# Altium integrated library Altera Mercury.IntLib: 11 symbols (part 1 of 4)
Pins are listed as number, name and electrical type; pins without a type are passive.

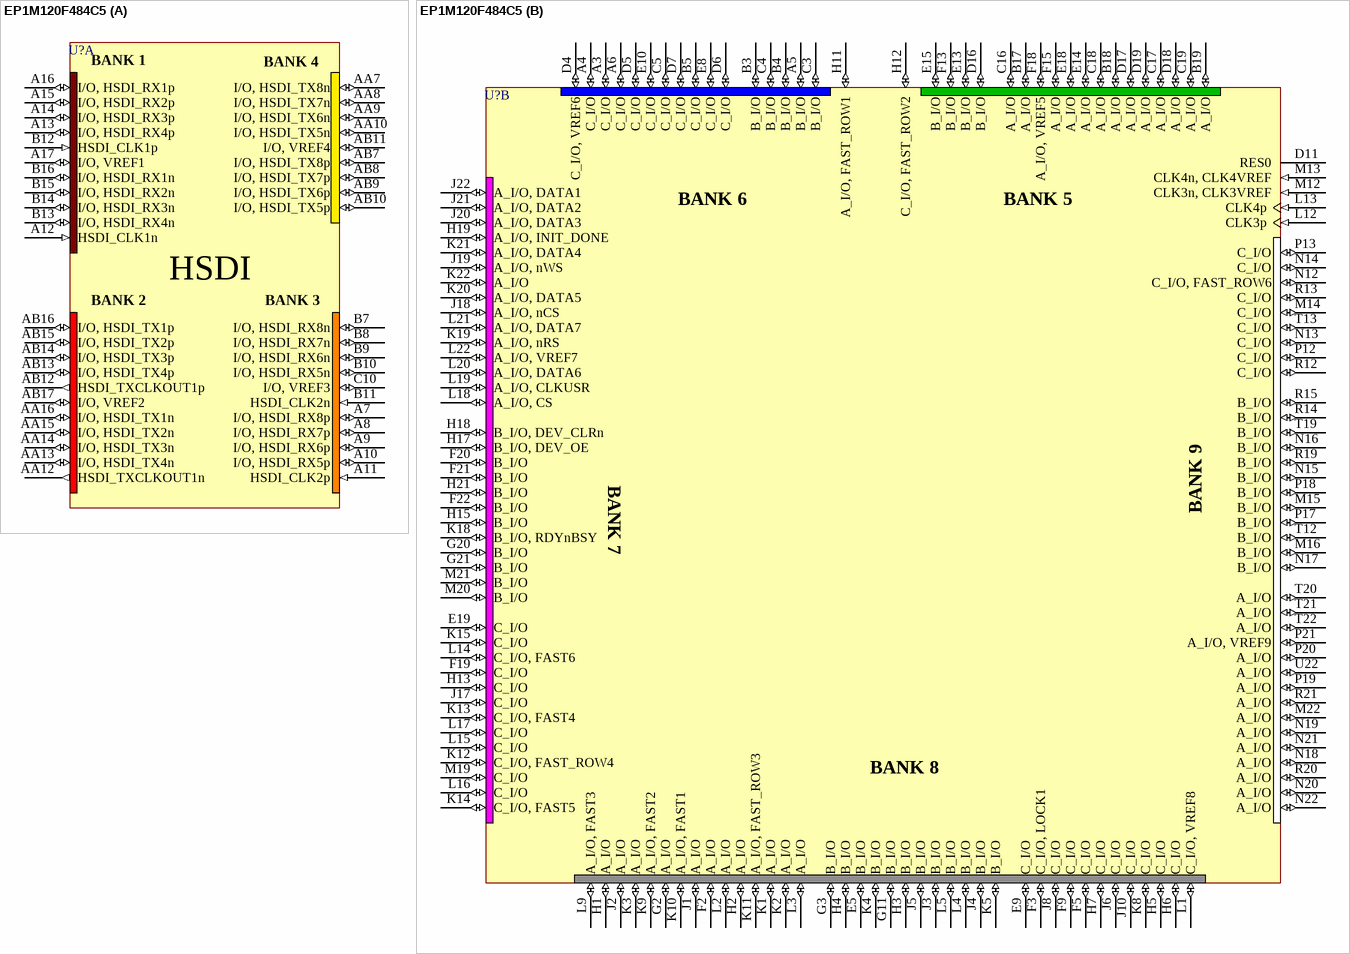
[diagram p0: symbol EP1M120F484C5]

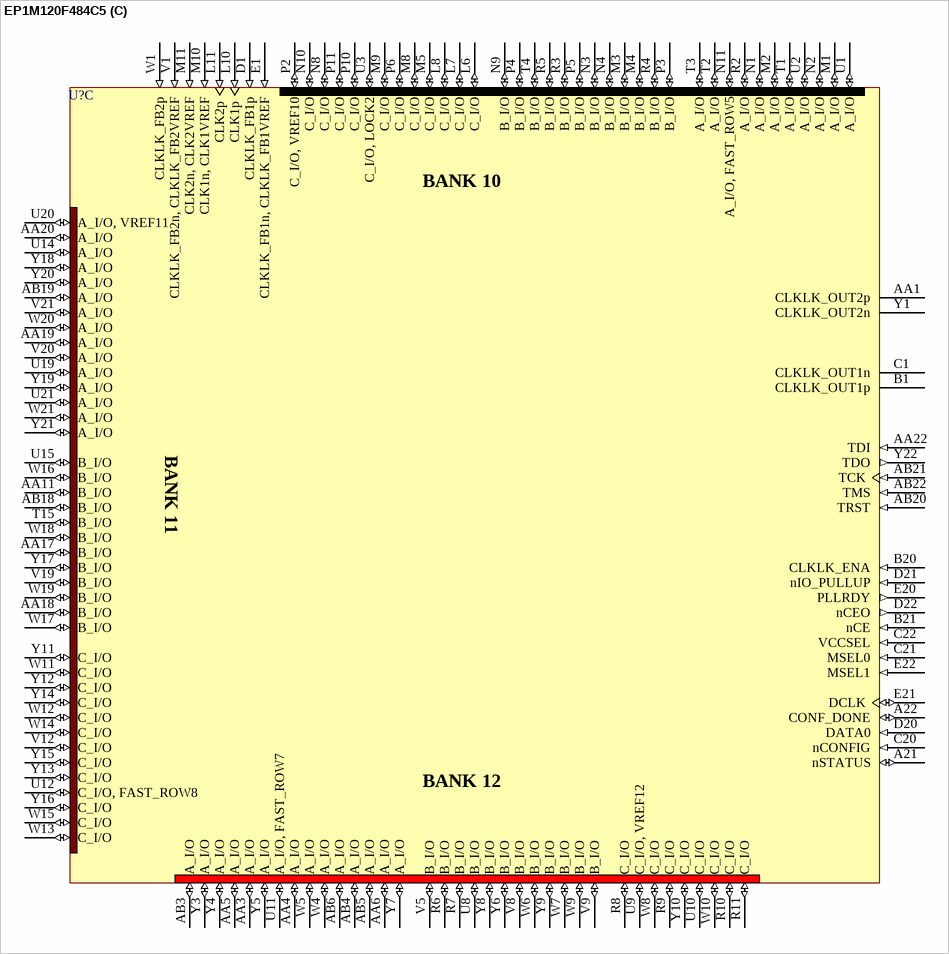
[diagram p1: symbol EP1M120F484C5]

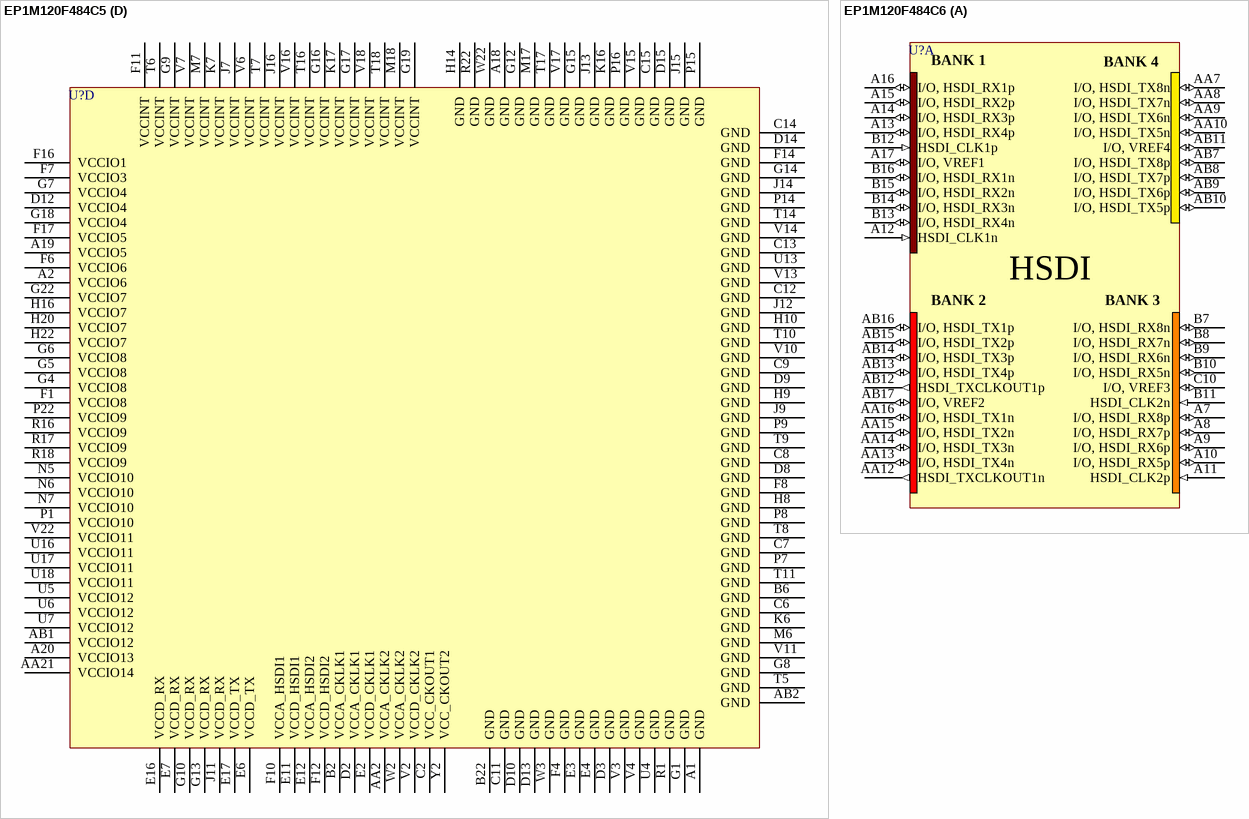
[diagram p2: symbols EP1M120F484C5 to EP1M120F484C6]

## EP1M120F484C5
designator U?
Mercury 1.8V FPGA, 303 I/O pins, 484-Pin FineLine BGA, Speed Grade 5, Commercial Grade; Published: 17-Jul-2002; LatestRevisionDate: 13-Apr-2006; LatestRevisionNote: IPC-7351 Footprint Added.; DatasheetVersion: ver2.2, Jan-2003; PackageVersion: ver14.1, Oct-2005; PackageReference: FBGA484; Publisher: Altium Limited; PackageDescription: 484-Ball FineLine Ball Grid Array (FBGA484) - Flip Chip; Code_JEDEC: MS-034-AAJ-1; Code_IPC: BGA100P22X22-484; ComponentLink1Description: Manufacturer Link; ComponentLink1URL: http://www.altera.com/products/devices/mercury/overview/mcy-overview.html; ComponentLink2Description: Datasheet; ComponentLink2URL: http://www.altera.com/literature/ds/dsmercury.pdf; ComponentLink3Description: Packaging Specification; ComponentLink3URL: http://www.altera.com/literature/ds/dspkg.pdf
footprint FBGA484 (BGA, 484-Leads, Body 23x23mm, Pitch 1mm)
3D model EP1M120-FBGA484T (484-Ball FineLine Ball Grid Array (FBGA484) - Flip Chip)
part A pins: A7 I/O, HSDI_RX8p (io), A8 I/O, HSDI_RX7p (io), A9 I/O, HSDI_RX6p (io), A10 I/O, HSDI_RX5p (io), A11 HSDI_CLK2p (in), A12 HSDI_CLK1n (in), A13 I/O, HSDI_RX4p (io), A14 I/O, HSDI_RX3p (io), A15 I/O, HSDI_RX2p (io), A16 I/O, HSDI_RX1p (io), A17 I/O, VREF1 (io), AA7 I/O, HSDI_TX8n (io), AA8 I/O, HSDI_TX7n (io), AA9 I/O, HSDI_TX6n (io), AA10 I/O, HSDI_TX5n (io), AA12 HSDI_TXCLKOUT1n (out), AA13 I/O, HSDI_TX4n (io), AA14 I/O, HSDI_TX3n (io), AA15 I/O, HSDI_TX2n (io), AA16 I/O, HSDI_TX1n (io), AB7 I/O, HSDI_TX8p (io), AB8 I/O, HSDI_TX7p (io), AB9 I/O, HSDI_TX6p (io), AB10 I/O, HSDI_TX5p (io), AB11 I/O, VREF4 (io), AB12 HSDI_TXCLKOUT1p (out), AB13 I/O, HSDI_TX4p (io), AB14 I/O, HSDI_TX3p (io), AB15 I/O, HSDI_TX2p (io), AB16 I/O, HSDI_TX1p (io), AB17 I/O, VREF2 (io), B7 I/O, HSDI_RX8n (io), B8 I/O, HSDI_RX7n (io), B9 I/O, HSDI_RX6n (io), B10 I/O, HSDI_RX5n (io), B11 HSDI_CLK2n (in), B12 HSDI_CLK1p (in), B13 I/O, HSDI_RX4n (io), B14 I/O, HSDI_RX3n (io), B15 I/O, HSDI_RX2n (io), B16 I/O, HSDI_RX1n (io), C10 I/O, VREF3 (io)
part B pins: A3 C_I/O (io), A4 C_I/O (io), A5 B_I/O (io), A6 C_I/O (io), B3 B_I/O (io), B4 B_I/O (io), B5 C_I/O (io), B17 A_I/O (io), B18 A_I/O (io), B19 A_I/O (io), C3 B_I/O (io), C4 B_I/O (io), C5 C_I/O (io), C16 A_I/O (io), C17 A_I/O (io), C18 A_I/O (io), C19 A_I/O (io), D4 C_I/O, VREF6 (io), D5 C_I/O (io), D6 C_I/O (io), D7 C_I/O (io), D11 RES0, D16 B_I/O (io), D17 A_I/O (io), D18 A_I/O (io), D19 A_I/O (io), E5 B_I/O (io), E8 C_I/O (io), E9 C_I/O (io), E10 C_I/O (io), E13 B_I/O (io), E14 A_I/O (io), E15 B_I/O (io), E18 A_I/O (io), E19 C_I/O (io), F2 A_I/O (io), F3 C_I/O, LOCK1 (io), F5 C_I/O (io), F9 C_I/O (io), F13 B_I/O (io), F15 A_I/O (io), F18 A_I/O, VREF5 (io), F19 C_I/O (io), F20 B_I/O (io), F21 B_I/O (io), F22 B_I/O (io), G2 A_I/O (io), G3 B_I/O (io), G11 B_I/O (io), G20 B_I/O (io), G21 B_I/O (io), H1 A_I/O (io), H2 A_I/O (io), H3 B_I/O (io), H4 B_I/O (io), H5 C_I/O (io), H6 C_I/O (io), H7 C_I/O (io), H11 A_I/O, FAST_ROW1 (io), H12 C_I/O, FAST_ROW2 (io), H13 C_I/O (io), H15 B_I/O (io), H17 B_I/O, DEV_OE (io), H18 B_I/O, DEV_CLRn (io), H19 A_I/O, INIT_DONE (io), H21 B_I/O (io), J1 A_I/O (io), J2 A_I/O (io), J3 B_I/O (io), J4 B_I/O (io), J5 B_I/O (io), J6 C_I/O (io), J8 C_I/O (io), J10 C_I/O (io), J17 C_I/O (io), J18 A_I/O, nCS (io), J19 A_I/O, nWS (io), J20 A_I/O, DATA3 (io), J21 A_I/O, DATA2 (io), J22 A_I/O, DATA1 (io), K1 A_I/O (io), K2 A_I/O (io), K3 A_I/O (io), K4 B_I/O (io), K5 B_I/O (io), K8 C_I/O (io), K9 A_I/O, FAST2 (io), K10 A_I/O, FAST1 (io), K11 A_I/O, FAST_ROW3 (io), K12 C_I/O, FAST_ROW4 (io), K13 C_I/O, FAST4 (io), K14 C_I/O, FAST5 (io), K15 C_I/O (io), K18 B_I/O, RDYnBSY (io), K19 A_I/O, nRS (io), K20 A_I/O, DATA5 (io), K21 A_I/O, DATA4 (io), K22 A_I/O (io), L1 C_I/O, VREF8 (io), L2 A_I/O (io), L3 A_I/O (io), L4 B_I/O (io), L5 B_I/O (io), L9 A_I/O, FAST3 (io), L12 CLK3p (in), L13 CLK4p (in), L14 C_I/O, FAST6 (io), L15 C_I/O (io), L16 C_I/O (io), L17 C_I/O (io), L18 A_I/O, CS (io), L19 A_I/O, CLKUSR (io), L20 A_I/O, DATA6 (io), L21 A_I/O, DATA7 (io), L22 A_I/O, VREF7 (io), M12 CLK3n, CLK3VREF (in), M13 CLK4n, CLK4VREF (in), M14 C_I/O (io), M15 B_I/O (io), M16 B_I/O (io), M19 C_I/O (io), M20 B_I/O (io), M21 B_I/O (io), M22 A_I/O (io), N12 C_I/O, FAST_ROW6 (io), N13 C_I/O (io), N14 C_I/O (io), N15 B_I/O (io), N16 B_I/O (io), N17 B_I/O (io), N18 A_I/O (io), N19 A_I/O (io), N20 A_I/O (io), N21 A_I/O (io), N22 A_I/O (io), P12 C_I/O (io), P13 C_I/O (io), P17 B_I/O (io), P18 B_I/O (io), P19 A_I/O (io), P20 A_I/O (io), P21 A_I/O, VREF9 (io), R12 C_I/O (io), R13 C_I/O (io), R14 B_I/O (io), R15 B_I/O (io), R19 B_I/O (io), R20 A_I/O (io), R21 A_I/O (io), T12 B_I/O (io), T13 C_I/O (io), T19 B_I/O (io), T20 A_I/O (io), T21 A_I/O (io), T22 A_I/O (io), U22 A_I/O (io)
part C pins: A21 nSTATUS (io), A22 CONF_DONE (io), AA1 CLKLK_OUT2p, AA3 A_I/O (io), AA4 A_I/O (io), AA5 A_I/O (io), AA6 A_I/O (io), AA11 B_I/O (io), AA17 B_I/O (io), AA18 B_I/O (io), AA19 A_I/O (io), AA20 A_I/O (io), AA22 TDI (in), AB3 A_I/O (io), AB4 A_I/O (io), AB5 A_I/O (io), AB6 A_I/O (io), AB18 B_I/O (io), AB19 A_I/O (io), AB20 TRST (in), AB21 TCK (in), AB22 TMS (in), B1 CLKLK_OUT1p, B20 CLKLK_ENA (in), B21 nCE (in), C1 CLKLK_OUT1n, C20 nCONFIG (in), C21 MSEL0 (in), C22 VCCSEL (in), D1 CLKLK_FB1p (in), D20 DATA0 (in), D21 nIO_PULLUP (in), D22 nCEO (out), E1 CLKLK_FB1n, CLKLK_FB1VREF (in), E20 PLLRDY (out), E21 DCLK (io), E22 MSEL1 (in), L6 C_I/O (io), L7 C_I/O (io), L8 C_I/O (io), L10 CLK1p (in), L11 CLK2p (in), M1 A_I/O (io), M2 A_I/O (io), M3 B_I/O (io), M4 B_I/O (io), M5 C_I/O (io), M8 C_I/O (io), M9 C_I/O (io), M10 CLK1n, CLK1VREF (in), M11 CLK2n, CLK2VREF (in), N1 A_I/O (io), N2 A_I/O (io), N3 B_I/O (io), N4 B_I/O (io), N8 C_I/O (io), N9 B_I/O (io), N10 C_I/O (io), N11 A_I/O, FAST_ROW5 (io), P2 C_I/O, VREF10 (io), P3 B_I/O (io), P4 B_I/O (io), P5 B_I/O (io), P6 C_I/O (io), P10 C_I/O (io), P11 C_I/O (io), R2 A_I/O (io), R3 B_I/O (io), R4 B_I/O (io), R5 B_I/O (io), R6 B_I/O (io), R7 B_I/O (io), R8 C_I/O (io), R9 C_I/O (io), R10 C_I/O (io), R11 C_I/O (io), T1 A_I/O (io), T2 A_I/O (io), T3 A_I/O (io), T4 B_I/O (io), T15 B_I/O (io), U1 A_I/O (io), U2 A_I/O (io), U3 C_I/O, LOCK2 (io), U8 B_I/O (io), U9 C_I/O, VREF12 (io), U10 C_I/O (io), U11 A_I/O, FAST_ROW7 (io), U12 C_I/O, FAST_ROW8 (io), U14 A_I/O (io), U15 B_I/O (io), U19 A_I/O (io), U20 A_I/O, VREF11 (io), U21 A_I/O (io), V1 CLKLK_FB2n, CLKLK_FB2VREF (in), V5 B_I/O (io), V8 B_I/O (io), V9 B_I/O (io), V12 C_I/O (io), V19 B_I/O (io), V20 A_I/O (io), V21 A_I/O (io), W1 CLKLK_FB2p (in), W4 A_I/O (io), W5 A_I/O (io), W6 B_I/O (io), W7 B_I/O (io), W8 C_I/O (io), W9 B_I/O (io), W10 C_I/O (io), W11 C_I/O (io), W12 C_I/O (io), W13 C_I/O (io), W14 C_I/O (io), W15 C_I/O (io), W16 B_I/O (io), W17 B_I/O (io), W18 B_I/O (io), W19 B_I/O (io), W20 A_I/O (io), W21 A_I/O (io), Y1 CLKLK_OUT2n, Y3 A_I/O (io), Y4 A_I/O (io), Y5 A_I/O (io), Y6 B_I/O (io), Y7 A_I/O (io), Y8 B_I/O (io), Y9 B_I/O (io), Y10 C_I/O (io), Y11 C_I/O (io), Y12 C_I/O (io), Y13 C_I/O (io), Y14 C_I/O (io), Y15 C_I/O (io), Y16 C_I/O (io), Y17 B_I/O (io), Y18 A_I/O (io), Y19 A_I/O (io), Y20 A_I/O (io), Y21 A_I/O (io), Y22 TDO (out)
part D pins: A1 GND (power), A2 VCCIO6 (power), A18 GND (power), A19 VCCIO5 (power), A20 VCCIO13 (power), AA2 VCCA_CKLK2 (power), AA21 VCCIO14 (power), AB1 VCCIO12 (power), AB2 GND (power), B2 VCCA_CKLK1 (power), B6 GND (power), B22 GND (power), C2 VCC_CKOUT1 (power), C6 GND (power), C7 GND (power), C8 GND (power), C9 GND (power), C11 GND (power), C12 GND (power), C13 GND (power), C14 GND (power), C15 GND (power), D2 VCCA_CKLK1 (power), D3 GND (power), D8 GND (power), D9 GND (power), D10 GND (power), D12 VCCIO4 (power), D13 GND (power), D14 GND (power), D15 GND (power), E2 VCCD_CKLK1 (power), E3 GND (power), E4 GND (power), E6 VCCD_TX (power), E7 VCCD_RX (power), E11 VCCD_HSDI1 (power), E12 VCCA_HSDI2 (power), E16 VCCD_RX (power), E17 VCCD_TX (power), F1 VCCIO8 (power), F4 GND (power), F6 VCCIO6 (power), F7 VCCIO3 (power), F8 GND (power), F10 VCCA_HSDI1 (power), F11 VCCINT (power), F12 VCCD_HSDI2 (power), F14 GND (power), F16 VCCIO1 (power), F17 VCCIO5 (power), G1 GND (power), G4 VCCIO8 (power), G5 VCCIO8 (power), G6 VCCIO8 (power), G7 VCCIO4 (power), G8 GND (power), G9 VCCINT (power), G10 VCCD_RX (power), G12 GND (power), G13 VCCD_RX (power), G14 GND (power), G15 GND (power), G16 VCCINT (power), G17 VCCINT (power), G18 VCCIO4 (power), G19 VCCINT (power), G22 VCCIO7 (power), H8 GND (power), H9 GND (power), H10 GND (power), H14 GND (power), H16 VCCIO7 (power), H20 VCCIO7 (power), H22 VCCIO7 (power), J7 VCCINT (power), J9 GND (power), J11 VCCD_RX (power), J12 GND (power), J13 GND (power), J14 GND (power), J15 GND (power), J16 VCCINT (power), K6 GND (power), K7 VCCINT (power), K16 GND (power), K17 VCCINT (power), M6 GND (power), M7 VCCINT (power), M17 GND (power), M18 VCCINT (power), N5 VCCIO10 (power), N6 VCCIO10 (power), N7 VCCIO10 (power), P1 VCCIO10 (power), P7 GND (power), P8 GND (power), P9 GND (power), P14 GND (power), P15 GND (power), P16 GND (power), P22 VCCIO9 (power), R1 GND (power), R16 VCCIO9 (power), R17 VCCIO9 (power), R18 VCCIO9 (power), R22 GND (power), T5 GND (power), T6 VCCINT (power), T7 VCCINT (power), T8 GND (power), T9 GND (power), T10 GND (power), T11 GND (power), T14 GND (power), T16 VCCINT (power), T17 GND (power), T18 VCCINT (power), U4 GND (power), U5 VCCIO12 (power), U6 VCCIO12 (power), U7 VCCIO12 (power), U13 GND (power), U16 VCCIO11 (power), U17 VCCIO11 (power), U18 VCCIO11 (power), V2 VCCD_CKLK2 (power), V3 GND (power), V4 GND (power), V6 VCCINT (power), V7 VCCINT (power), V10 GND (power), V11 GND (power), V13 GND (power), V14 GND (power), V15 GND (power), V16 VCCINT (power), V17 GND (power), V18 VCCINT (power), V22 VCCIO11 (power), W2 VCCA_CKLK2 (power), W3 GND (power), W22 GND (power), Y2 VCC_CKOUT2 (power)
part A text: BANK 1; BANK 4; HSDI; BANK 2; BANK 3
part B text: BANK 6; BANK 5; BANK 7; BANK 9; BANK 8
part C text: BANK 10; BANK 11; BANK 12

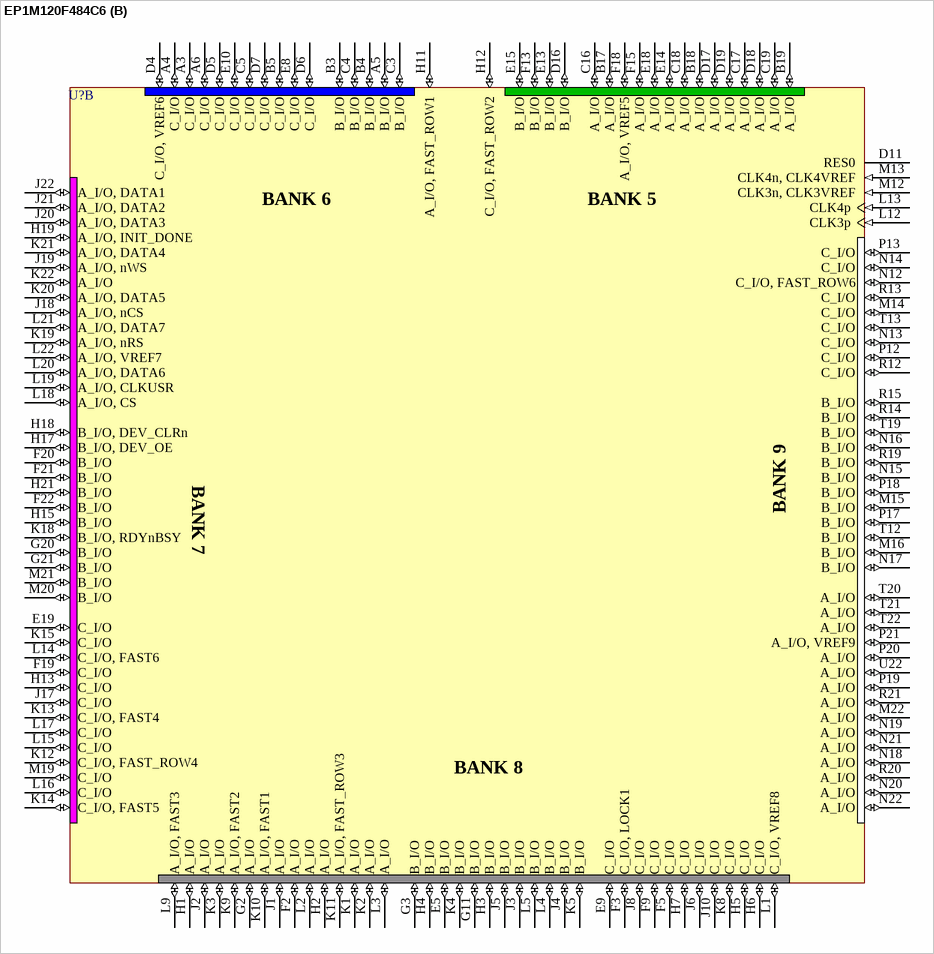
[diagram p3: symbol EP1M120F484C6]

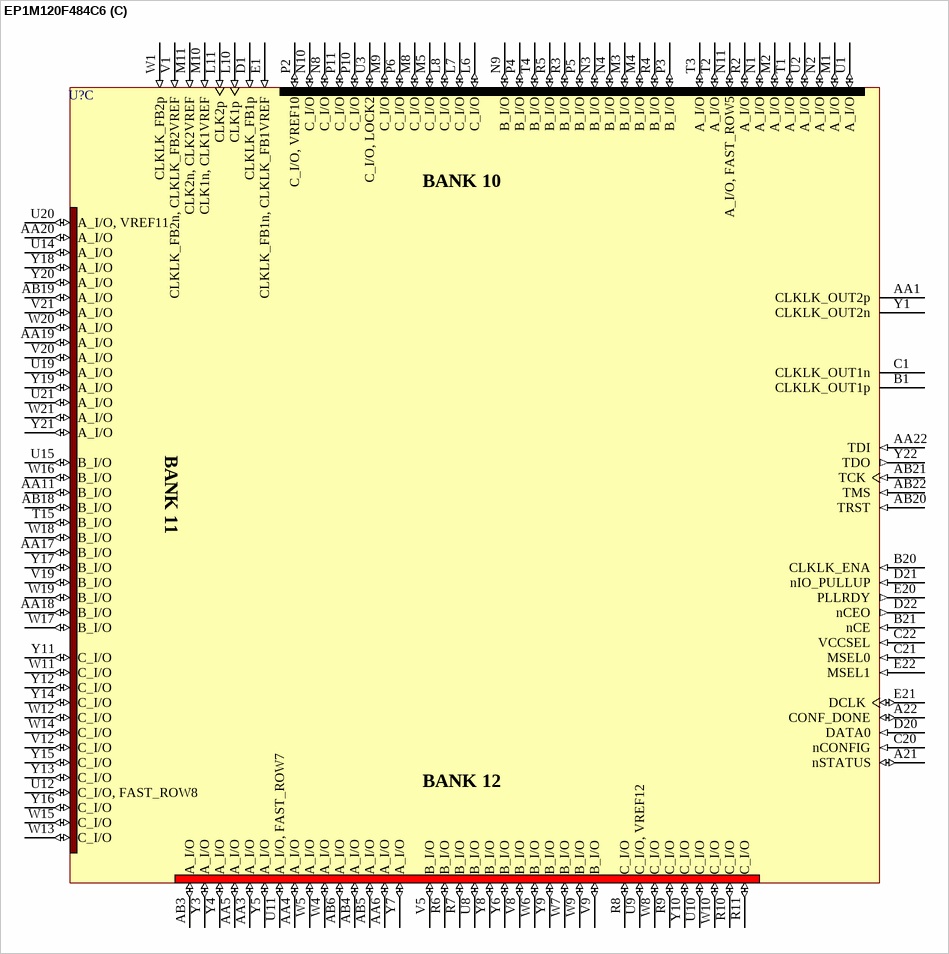
[diagram p4: symbol EP1M120F484C6]

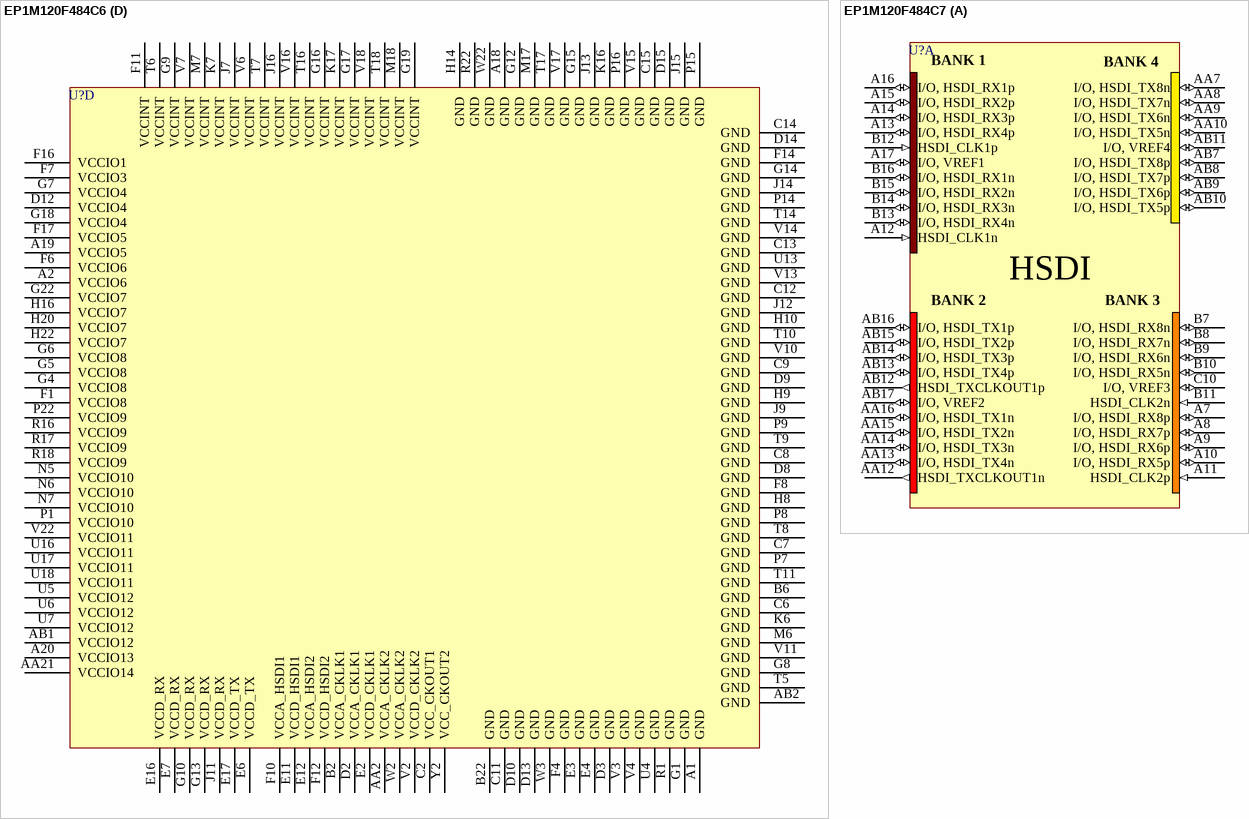
[diagram p5: symbols EP1M120F484C6 to EP1M120F484C7]

## EP1M120F484C6
designator U?
Mercury 1.8V FPGA, 303 I/O pins, 484-Pin FineLine BGA, Speed Grade 6, Commercial Grade; Published: 17-Jul-2002; LatestRevisionDate: 13-Apr-2006; LatestRevisionNote: IPC-7351 Footprint Added.; DatasheetVersion: ver2.2, Jan-2003; PackageVersion: ver14.1, Oct-2005; PackageReference: FBGA484; Publisher: Altium Limited; PackageDescription: 484-Ball FineLine Ball Grid Array (FBGA484) - Flip Chip; Code_JEDEC: MS-034-AAJ-1; Code_IPC: BGA100P22X22-484; ComponentLink1Description: Manufacturer Link; ComponentLink1URL: http://www.altera.com/products/devices/mercury/overview/mcy-overview.html; ComponentLink2Description: Datasheet; ComponentLink2URL: http://www.altera.com/literature/ds/dsmercury.pdf; ComponentLink3Description: Packaging Specification; ComponentLink3URL: http://www.altera.com/literature/ds/dspkg.pdf
footprint FBGA484 (BGA, 484-Leads, Body 23x23mm, Pitch 1mm)
3D model EP1M120-FBGA484T (484-Ball FineLine Ball Grid Array (FBGA484) - Flip Chip)
part A pins: A7 I/O, HSDI_RX8p (io), A8 I/O, HSDI_RX7p (io), A9 I/O, HSDI_RX6p (io), A10 I/O, HSDI_RX5p (io), A11 HSDI_CLK2p (in), A12 HSDI_CLK1n (in), A13 I/O, HSDI_RX4p (io), A14 I/O, HSDI_RX3p (io), A15 I/O, HSDI_RX2p (io), A16 I/O, HSDI_RX1p (io), A17 I/O, VREF1 (io), AA7 I/O, HSDI_TX8n (io), AA8 I/O, HSDI_TX7n (io), AA9 I/O, HSDI_TX6n (io), AA10 I/O, HSDI_TX5n (io), AA12 HSDI_TXCLKOUT1n (out), AA13 I/O, HSDI_TX4n (io), AA14 I/O, HSDI_TX3n (io), AA15 I/O, HSDI_TX2n (io), AA16 I/O, HSDI_TX1n (io), AB7 I/O, HSDI_TX8p (io), AB8 I/O, HSDI_TX7p (io), AB9 I/O, HSDI_TX6p (io), AB10 I/O, HSDI_TX5p (io), AB11 I/O, VREF4 (io), AB12 HSDI_TXCLKOUT1p (out), AB13 I/O, HSDI_TX4p (io), AB14 I/O, HSDI_TX3p (io), AB15 I/O, HSDI_TX2p (io), AB16 I/O, HSDI_TX1p (io), AB17 I/O, VREF2 (io), B7 I/O, HSDI_RX8n (io), B8 I/O, HSDI_RX7n (io), B9 I/O, HSDI_RX6n (io), B10 I/O, HSDI_RX5n (io), B11 HSDI_CLK2n (in), B12 HSDI_CLK1p (in), B13 I/O, HSDI_RX4n (io), B14 I/O, HSDI_RX3n (io), B15 I/O, HSDI_RX2n (io), B16 I/O, HSDI_RX1n (io), C10 I/O, VREF3 (io)
part B pins: A3 C_I/O (io), A4 C_I/O (io), A5 B_I/O (io), A6 C_I/O (io), B3 B_I/O (io), B4 B_I/O (io), B5 C_I/O (io), B17 A_I/O (io), B18 A_I/O (io), B19 A_I/O (io), C3 B_I/O (io), C4 B_I/O (io), C5 C_I/O (io), C16 A_I/O (io), C17 A_I/O (io), C18 A_I/O (io), C19 A_I/O (io), D4 C_I/O, VREF6 (io), D5 C_I/O (io), D6 C_I/O (io), D7 C_I/O (io), D11 RES0, D16 B_I/O (io), D17 A_I/O (io), D18 A_I/O (io), D19 A_I/O (io), E5 B_I/O (io), E8 C_I/O (io), E9 C_I/O (io), E10 C_I/O (io), E13 B_I/O (io), E14 A_I/O (io), E15 B_I/O (io), E18 A_I/O (io), E19 C_I/O (io), F2 A_I/O (io), F3 C_I/O, LOCK1 (io), F5 C_I/O (io), F9 C_I/O (io), F13 B_I/O (io), F15 A_I/O (io), F18 A_I/O, VREF5 (io), F19 C_I/O (io), F20 B_I/O (io), F21 B_I/O (io), F22 B_I/O (io), G2 A_I/O (io), G3 B_I/O (io), G11 B_I/O (io), G20 B_I/O (io), G21 B_I/O (io), H1 A_I/O (io), H2 A_I/O (io), H3 B_I/O (io), H4 B_I/O (io), H5 C_I/O (io), H6 C_I/O (io), H7 C_I/O (io), H11 A_I/O, FAST_ROW1 (io), H12 C_I/O, FAST_ROW2 (io), H13 C_I/O (io), H15 B_I/O (io), H17 B_I/O, DEV_OE (io), H18 B_I/O, DEV_CLRn (io), H19 A_I/O, INIT_DONE (io), H21 B_I/O (io), J1 A_I/O (io), J2 A_I/O (io), J3 B_I/O (io), J4 B_I/O (io), J5 B_I/O (io), J6 C_I/O (io), J8 C_I/O (io), J10 C_I/O (io), J17 C_I/O (io), J18 A_I/O, nCS (io), J19 A_I/O, nWS (io), J20 A_I/O, DATA3 (io), J21 A_I/O, DATA2 (io), J22 A_I/O, DATA1 (io), K1 A_I/O (io), K2 A_I/O (io), K3 A_I/O (io), K4 B_I/O (io), K5 B_I/O (io), K8 C_I/O (io), K9 A_I/O, FAST2 (io), K10 A_I/O, FAST1 (io), K11 A_I/O, FAST_ROW3 (io), K12 C_I/O, FAST_ROW4 (io), K13 C_I/O, FAST4 (io), K14 C_I/O, FAST5 (io), K15 C_I/O (io), K18 B_I/O, RDYnBSY (io), K19 A_I/O, nRS (io), K20 A_I/O, DATA5 (io), K21 A_I/O, DATA4 (io), K22 A_I/O (io), L1 C_I/O, VREF8 (io), L2 A_I/O (io), L3 A_I/O (io), L4 B_I/O (io), L5 B_I/O (io), L9 A_I/O, FAST3 (io), L12 CLK3p (in), L13 CLK4p (in), L14 C_I/O, FAST6 (io), L15 C_I/O (io), L16 C_I/O (io), L17 C_I/O (io), L18 A_I/O, CS (io), L19 A_I/O, CLKUSR (io), L20 A_I/O, DATA6 (io), L21 A_I/O, DATA7 (io), L22 A_I/O, VREF7 (io), M12 CLK3n, CLK3VREF (in), M13 CLK4n, CLK4VREF (in), M14 C_I/O (io), M15 B_I/O (io), M16 B_I/O (io), M19 C_I/O (io), M20 B_I/O (io), M21 B_I/O (io), M22 A_I/O (io), N12 C_I/O, FAST_ROW6 (io), N13 C_I/O (io), N14 C_I/O (io), N15 B_I/O (io), N16 B_I/O (io), N17 B_I/O (io), N18 A_I/O (io), N19 A_I/O (io), N20 A_I/O (io), N21 A_I/O (io), N22 A_I/O (io), P12 C_I/O (io), P13 C_I/O (io), P17 B_I/O (io), P18 B_I/O (io), P19 A_I/O (io), P20 A_I/O (io), P21 A_I/O, VREF9 (io), R12 C_I/O (io), R13 C_I/O (io), R14 B_I/O (io), R15 B_I/O (io), R19 B_I/O (io), R20 A_I/O (io), R21 A_I/O (io), T12 B_I/O (io), T13 C_I/O (io), T19 B_I/O (io), T20 A_I/O (io), T21 A_I/O (io), T22 A_I/O (io), U22 A_I/O (io)
part C pins: A21 nSTATUS (io), A22 CONF_DONE (io), AA1 CLKLK_OUT2p, AA3 A_I/O (io), AA4 A_I/O (io), AA5 A_I/O (io), AA6 A_I/O (io), AA11 B_I/O (io), AA17 B_I/O (io), AA18 B_I/O (io), AA19 A_I/O (io), AA20 A_I/O (io), AA22 TDI (in), AB3 A_I/O (io), AB4 A_I/O (io), AB5 A_I/O (io), AB6 A_I/O (io), AB18 B_I/O (io), AB19 A_I/O (io), AB20 TRST (in), AB21 TCK (in), AB22 TMS (in), B1 CLKLK_OUT1p, B20 CLKLK_ENA (in), B21 nCE (in), C1 CLKLK_OUT1n, C20 nCONFIG (in), C21 MSEL0 (in), C22 VCCSEL (in), D1 CLKLK_FB1p (in), D20 DATA0 (in), D21 nIO_PULLUP (in), D22 nCEO (out), E1 CLKLK_FB1n, CLKLK_FB1VREF (in), E20 PLLRDY (out), E21 DCLK (io), E22 MSEL1 (in), L6 C_I/O (io), L7 C_I/O (io), L8 C_I/O (io), L10 CLK1p (in), L11 CLK2p (in), M1 A_I/O (io), M2 A_I/O (io), M3 B_I/O (io), M4 B_I/O (io), M5 C_I/O (io), M8 C_I/O (io), M9 C_I/O (io), M10 CLK1n, CLK1VREF (in), M11 CLK2n, CLK2VREF (in), N1 A_I/O (io), N2 A_I/O (io), N3 B_I/O (io), N4 B_I/O (io), N8 C_I/O (io), N9 B_I/O (io), N10 C_I/O (io), N11 A_I/O, FAST_ROW5 (io), P2 C_I/O, VREF10 (io), P3 B_I/O (io), P4 B_I/O (io), P5 B_I/O (io), P6 C_I/O (io), P10 C_I/O (io), P11 C_I/O (io), R2 A_I/O (io), R3 B_I/O (io), R4 B_I/O (io), R5 B_I/O (io), R6 B_I/O (io), R7 B_I/O (io), R8 C_I/O (io), R9 C_I/O (io), R10 C_I/O (io), R11 C_I/O (io), T1 A_I/O (io), T2 A_I/O (io), T3 A_I/O (io), T4 B_I/O (io), T15 B_I/O (io), U1 A_I/O (io), U2 A_I/O (io), U3 C_I/O, LOCK2 (io), U8 B_I/O (io), U9 C_I/O, VREF12 (io), U10 C_I/O (io), U11 A_I/O, FAST_ROW7 (io), U12 C_I/O, FAST_ROW8 (io), U14 A_I/O (io), U15 B_I/O (io), U19 A_I/O (io), U20 A_I/O, VREF11 (io), U21 A_I/O (io), V1 CLKLK_FB2n, CLKLK_FB2VREF (in), V5 B_I/O (io), V8 B_I/O (io), V9 B_I/O (io), V12 C_I/O (io), V19 B_I/O (io), V20 A_I/O (io), V21 A_I/O (io), W1 CLKLK_FB2p (in), W4 A_I/O (io), W5 A_I/O (io), W6 B_I/O (io), W7 B_I/O (io), W8 C_I/O (io), W9 B_I/O (io), W10 C_I/O (io), W11 C_I/O (io), W12 C_I/O (io), W13 C_I/O (io), W14 C_I/O (io), W15 C_I/O (io), W16 B_I/O (io), W17 B_I/O (io), W18 B_I/O (io), W19 B_I/O (io), W20 A_I/O (io), W21 A_I/O (io), Y1 CLKLK_OUT2n, Y3 A_I/O (io), Y4 A_I/O (io), Y5 A_I/O (io), Y6 B_I/O (io), Y7 A_I/O (io), Y8 B_I/O (io), Y9 B_I/O (io), Y10 C_I/O (io), Y11 C_I/O (io), Y12 C_I/O (io), Y13 C_I/O (io), Y14 C_I/O (io), Y15 C_I/O (io), Y16 C_I/O (io), Y17 B_I/O (io), Y18 A_I/O (io), Y19 A_I/O (io), Y20 A_I/O (io), Y21 A_I/O (io), Y22 TDO (out)
part D pins: A1 GND (power), A2 VCCIO6 (power), A18 GND (power), A19 VCCIO5 (power), A20 VCCIO13 (power), AA2 VCCA_CKLK2 (power), AA21 VCCIO14 (power), AB1 VCCIO12 (power), AB2 GND (power), B2 VCCA_CKLK1 (power), B6 GND (power), B22 GND (power), C2 VCC_CKOUT1 (power), C6 GND (power), C7 GND (power), C8 GND (power), C9 GND (power), C11 GND (power), C12 GND (power), C13 GND (power), C14 GND (power), C15 GND (power), D2 VCCA_CKLK1 (power), D3 GND (power), D8 GND (power), D9 GND (power), D10 GND (power), D12 VCCIO4 (power), D13 GND (power), D14 GND (power), D15 GND (power), E2 VCCD_CKLK1 (power), E3 GND (power), E4 GND (power), E6 VCCD_TX (power), E7 VCCD_RX (power), E11 VCCD_HSDI1 (power), E12 VCCA_HSDI2 (power), E16 VCCD_RX (power), E17 VCCD_TX (power), F1 VCCIO8 (power), F4 GND (power), F6 VCCIO6 (power), F7 VCCIO3 (power), F8 GND (power), F10 VCCA_HSDI1 (power), F11 VCCINT (power), F12 VCCD_HSDI2 (power), F14 GND (power), F16 VCCIO1 (power), F17 VCCIO5 (power), G1 GND (power), G4 VCCIO8 (power), G5 VCCIO8 (power), G6 VCCIO8 (power), G7 VCCIO4 (power), G8 GND (power), G9 VCCINT (power), G10 VCCD_RX (power), G12 GND (power), G13 VCCD_RX (power), G14 GND (power), G15 GND (power), G16 VCCINT (power), G17 VCCINT (power), G18 VCCIO4 (power), G19 VCCINT (power), G22 VCCIO7 (power), H8 GND (power), H9 GND (power), H10 GND (power), H14 GND (power), H16 VCCIO7 (power), H20 VCCIO7 (power), H22 VCCIO7 (power), J7 VCCINT (power), J9 GND (power), J11 VCCD_RX (power), J12 GND (power), J13 GND (power), J14 GND (power), J15 GND (power), J16 VCCINT (power), K6 GND (power), K7 VCCINT (power), K16 GND (power), K17 VCCINT (power), M6 GND (power), M7 VCCINT (power), M17 GND (power), M18 VCCINT (power), N5 VCCIO10 (power), N6 VCCIO10 (power), N7 VCCIO10 (power), P1 VCCIO10 (power), P7 GND (power), P8 GND (power), P9 GND (power), P14 GND (power), P15 GND (power), P16 GND (power), P22 VCCIO9 (power), R1 GND (power), R16 VCCIO9 (power), R17 VCCIO9 (power), R18 VCCIO9 (power), R22 GND (power), T5 GND (power), T6 VCCINT (power), T7 VCCINT (power), T8 GND (power), T9 GND (power), T10 GND (power), T11 GND (power), T14 GND (power), T16 VCCINT (power), T17 GND (power), T18 VCCINT (power), U4 GND (power), U5 VCCIO12 (power), U6 VCCIO12 (power), U7 VCCIO12 (power), U13 GND (power), U16 VCCIO11 (power), U17 VCCIO11 (power), U18 VCCIO11 (power), V2 VCCD_CKLK2 (power), V3 GND (power), V4 GND (power), V6 VCCINT (power), V7 VCCINT (power), V10 GND (power), V11 GND (power), V13 GND (power), V14 GND (power), V15 GND (power), V16 VCCINT (power), V17 GND (power), V18 VCCINT (power), V22 VCCIO11 (power), W2 VCCA_CKLK2 (power), W3 GND (power), W22 GND (power), Y2 VCC_CKOUT2 (power)
part A text: BANK 1; BANK 4; HSDI; BANK 2; BANK 3
part B text: BANK 6; BANK 5; BANK 7; BANK 9; BANK 8
part C text: BANK 10; BANK 11; BANK 12

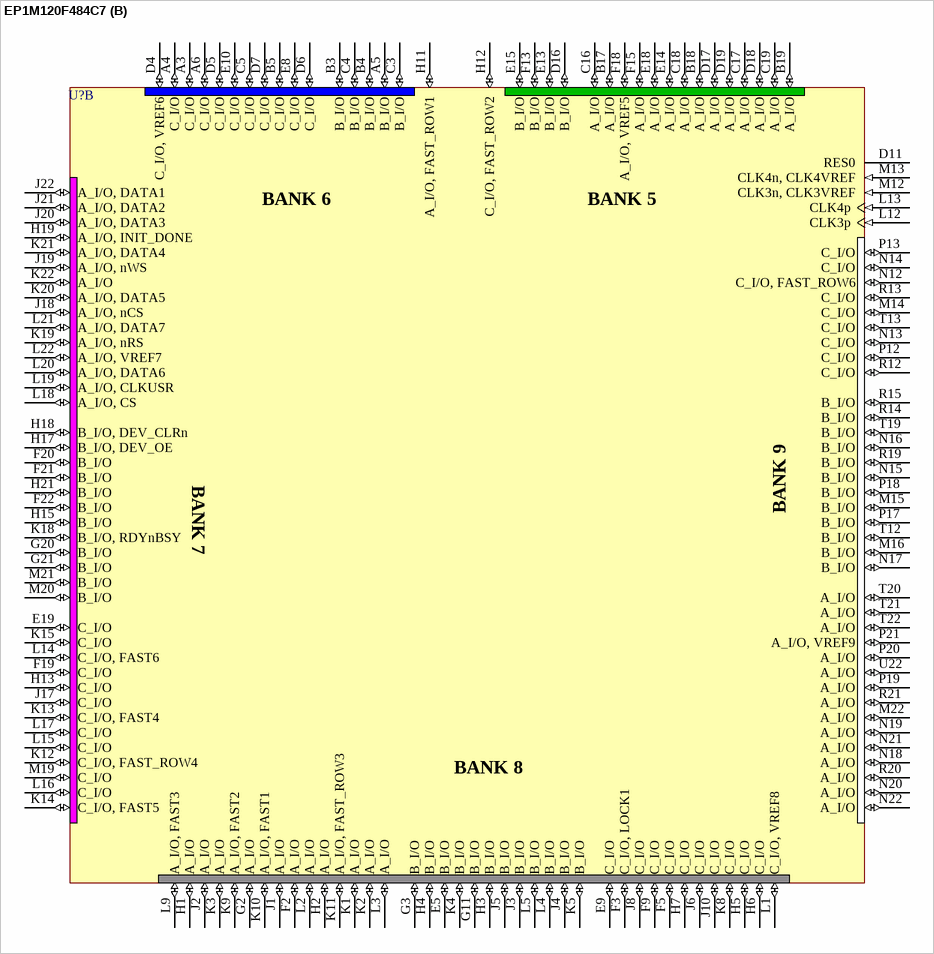
[diagram p6: symbol EP1M120F484C7]

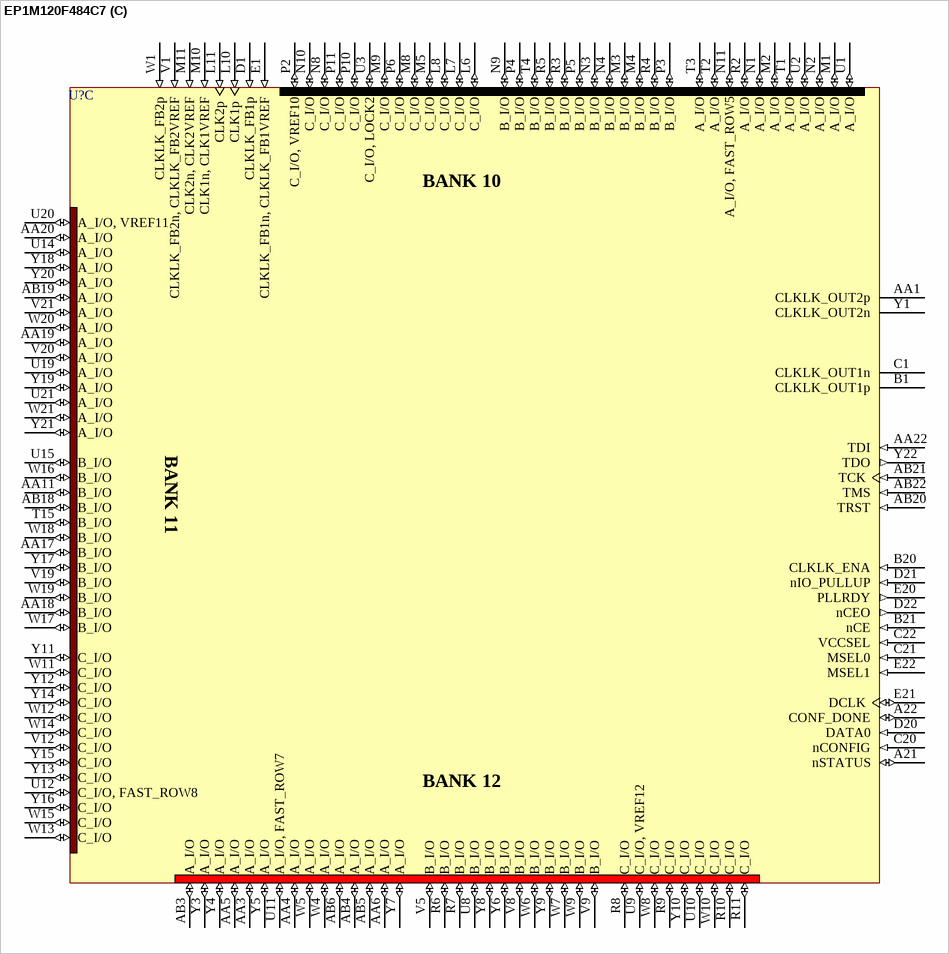
[diagram p7: symbol EP1M120F484C7]

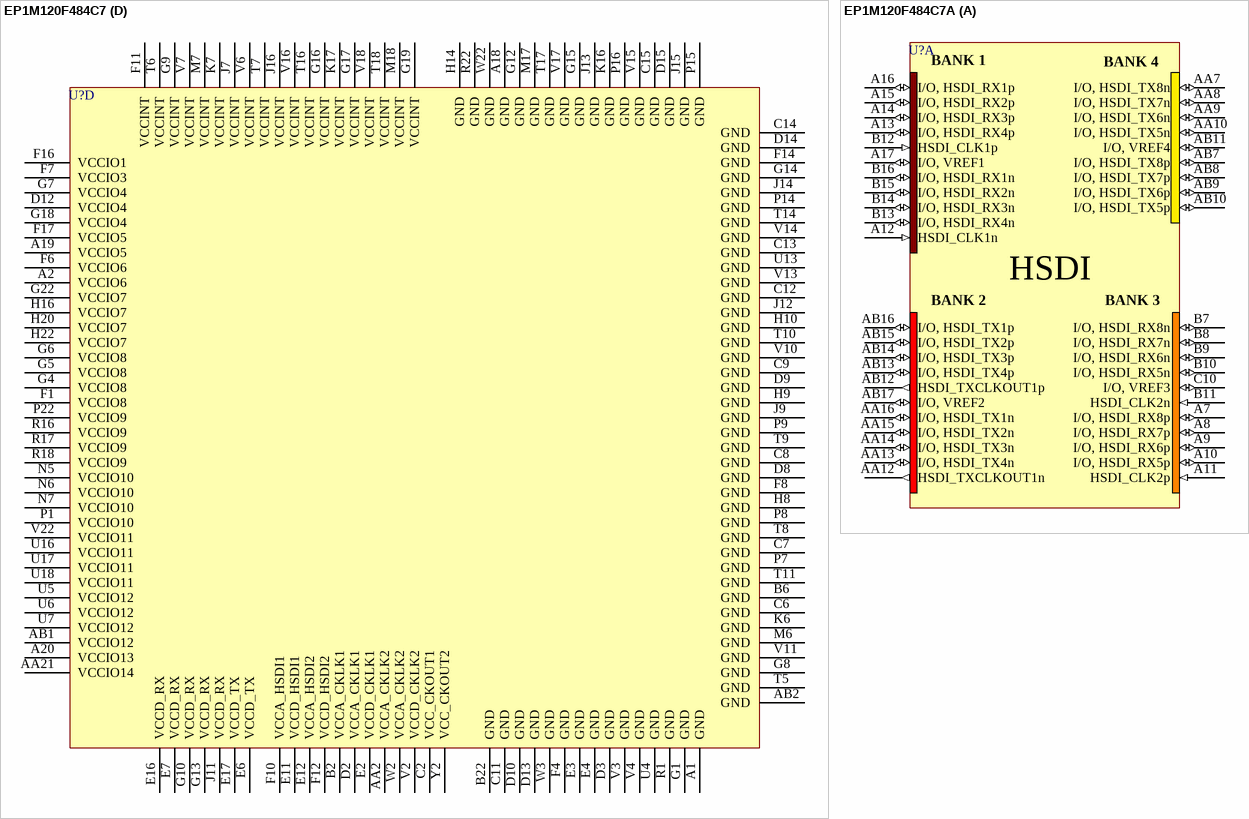
[diagram p8: symbols EP1M120F484C7 to EP1M120F484C7A]

## EP1M120F484C7
designator U?
Mercury 1.8V FPGA, 303 I/O pins, 484-Pin FineLine BGA, Speed Grade 7, Commercial Grade; Published: 17-Jul-2002; LatestRevisionDate: 13-Apr-2006; LatestRevisionNote: IPC-7351 Footprint Added.; DatasheetVersion: ver2.2, Jan-2003; PackageVersion: ver14.1, Oct-2005; PackageReference: FBGA484; Publisher: Altium Limited; PackageDescription: 484-Ball FineLine Ball Grid Array (FBGA484) - Flip Chip; Code_JEDEC: MS-034-AAJ-1; Code_IPC: BGA100P22X22-484; ComponentLink1Description: Manufacturer Link; ComponentLink1URL: http://www.altera.com/products/devices/mercury/overview/mcy-overview.html; ComponentLink2Description: Datasheet; ComponentLink2URL: http://www.altera.com/literature/ds/dsmercury.pdf; ComponentLink3Description: Packaging Specification; ComponentLink3URL: http://www.altera.com/literature/ds/dspkg.pdf
footprint FBGA484 (BGA, 484-Leads, Body 23x23mm, Pitch 1mm)
3D model EP1M120-FBGA484T (484-Ball FineLine Ball Grid Array (FBGA484) - Flip Chip)
part A pins: A7 I/O, HSDI_RX8p (io), A8 I/O, HSDI_RX7p (io), A9 I/O, HSDI_RX6p (io), A10 I/O, HSDI_RX5p (io), A11 HSDI_CLK2p (in), A12 HSDI_CLK1n (in), A13 I/O, HSDI_RX4p (io), A14 I/O, HSDI_RX3p (io), A15 I/O, HSDI_RX2p (io), A16 I/O, HSDI_RX1p (io), A17 I/O, VREF1 (io), AA7 I/O, HSDI_TX8n (io), AA8 I/O, HSDI_TX7n (io), AA9 I/O, HSDI_TX6n (io), AA10 I/O, HSDI_TX5n (io), AA12 HSDI_TXCLKOUT1n (out), AA13 I/O, HSDI_TX4n (io), AA14 I/O, HSDI_TX3n (io), AA15 I/O, HSDI_TX2n (io), AA16 I/O, HSDI_TX1n (io), AB7 I/O, HSDI_TX8p (io), AB8 I/O, HSDI_TX7p (io), AB9 I/O, HSDI_TX6p (io), AB10 I/O, HSDI_TX5p (io), AB11 I/O, VREF4 (io), AB12 HSDI_TXCLKOUT1p (out), AB13 I/O, HSDI_TX4p (io), AB14 I/O, HSDI_TX3p (io), AB15 I/O, HSDI_TX2p (io), AB16 I/O, HSDI_TX1p (io), AB17 I/O, VREF2 (io), B7 I/O, HSDI_RX8n (io), B8 I/O, HSDI_RX7n (io), B9 I/O, HSDI_RX6n (io), B10 I/O, HSDI_RX5n (io), B11 HSDI_CLK2n (in), B12 HSDI_CLK1p (in), B13 I/O, HSDI_RX4n (io), B14 I/O, HSDI_RX3n (io), B15 I/O, HSDI_RX2n (io), B16 I/O, HSDI_RX1n (io), C10 I/O, VREF3 (io)
part B pins: A3 C_I/O (io), A4 C_I/O (io), A5 B_I/O (io), A6 C_I/O (io), B3 B_I/O (io), B4 B_I/O (io), B5 C_I/O (io), B17 A_I/O (io), B18 A_I/O (io), B19 A_I/O (io), C3 B_I/O (io), C4 B_I/O (io), C5 C_I/O (io), C16 A_I/O (io), C17 A_I/O (io), C18 A_I/O (io), C19 A_I/O (io), D4 C_I/O, VREF6 (io), D5 C_I/O (io), D6 C_I/O (io), D7 C_I/O (io), D11 RES0, D16 B_I/O (io), D17 A_I/O (io), D18 A_I/O (io), D19 A_I/O (io), E5 B_I/O (io), E8 C_I/O (io), E9 C_I/O (io), E10 C_I/O (io), E13 B_I/O (io), E14 A_I/O (io), E15 B_I/O (io), E18 A_I/O (io), E19 C_I/O (io), F2 A_I/O (io), F3 C_I/O, LOCK1 (io), F5 C_I/O (io), F9 C_I/O (io), F13 B_I/O (io), F15 A_I/O (io), F18 A_I/O, VREF5 (io), F19 C_I/O (io), F20 B_I/O (io), F21 B_I/O (io), F22 B_I/O (io), G2 A_I/O (io), G3 B_I/O (io), G11 B_I/O (io), G20 B_I/O (io), G21 B_I/O (io), H1 A_I/O (io), H2 A_I/O (io), H3 B_I/O (io), H4 B_I/O (io), H5 C_I/O (io), H6 C_I/O (io), H7 C_I/O (io), H11 A_I/O, FAST_ROW1 (io), H12 C_I/O, FAST_ROW2 (io), H13 C_I/O (io), H15 B_I/O (io), H17 B_I/O, DEV_OE (io), H18 B_I/O, DEV_CLRn (io), H19 A_I/O, INIT_DONE (io), H21 B_I/O (io), J1 A_I/O (io), J2 A_I/O (io), J3 B_I/O (io), J4 B_I/O (io), J5 B_I/O (io), J6 C_I/O (io), J8 C_I/O (io), J10 C_I/O (io), J17 C_I/O (io), J18 A_I/O, nCS (io), J19 A_I/O, nWS (io), J20 A_I/O, DATA3 (io), J21 A_I/O, DATA2 (io), J22 A_I/O, DATA1 (io), K1 A_I/O (io), K2 A_I/O (io), K3 A_I/O (io), K4 B_I/O (io), K5 B_I/O (io), K8 C_I/O (io), K9 A_I/O, FAST2 (io), K10 A_I/O, FAST1 (io), K11 A_I/O, FAST_ROW3 (io), K12 C_I/O, FAST_ROW4 (io), K13 C_I/O, FAST4 (io), K14 C_I/O, FAST5 (io), K15 C_I/O (io), K18 B_I/O, RDYnBSY (io), K19 A_I/O, nRS (io), K20 A_I/O, DATA5 (io), K21 A_I/O, DATA4 (io), K22 A_I/O (io), L1 C_I/O, VREF8 (io), L2 A_I/O (io), L3 A_I/O (io), L4 B_I/O (io), L5 B_I/O (io), L9 A_I/O, FAST3 (io), L12 CLK3p (in), L13 CLK4p (in), L14 C_I/O, FAST6 (io), L15 C_I/O (io), L16 C_I/O (io), L17 C_I/O (io), L18 A_I/O, CS (io), L19 A_I/O, CLKUSR (io), L20 A_I/O, DATA6 (io), L21 A_I/O, DATA7 (io), L22 A_I/O, VREF7 (io), M12 CLK3n, CLK3VREF (in), M13 CLK4n, CLK4VREF (in), M14 C_I/O (io), M15 B_I/O (io), M16 B_I/O (io), M19 C_I/O (io), M20 B_I/O (io), M21 B_I/O (io), M22 A_I/O (io), N12 C_I/O, FAST_ROW6 (io), N13 C_I/O (io), N14 C_I/O (io), N15 B_I/O (io), N16 B_I/O (io), N17 B_I/O (io), N18 A_I/O (io), N19 A_I/O (io), N20 A_I/O (io), N21 A_I/O (io), N22 A_I/O (io), P12 C_I/O (io), P13 C_I/O (io), P17 B_I/O (io), P18 B_I/O (io), P19 A_I/O (io), P20 A_I/O (io), P21 A_I/O, VREF9 (io), R12 C_I/O (io), R13 C_I/O (io), R14 B_I/O (io), R15 B_I/O (io), R19 B_I/O (io), R20 A_I/O (io), R21 A_I/O (io), T12 B_I/O (io), T13 C_I/O (io), T19 B_I/O (io), T20 A_I/O (io), T21 A_I/O (io), T22 A_I/O (io), U22 A_I/O (io)
part C pins: A21 nSTATUS (io), A22 CONF_DONE (io), AA1 CLKLK_OUT2p, AA3 A_I/O (io), AA4 A_I/O (io), AA5 A_I/O (io), AA6 A_I/O (io), AA11 B_I/O (io), AA17 B_I/O (io), AA18 B_I/O (io), AA19 A_I/O (io), AA20 A_I/O (io), AA22 TDI (in), AB3 A_I/O (io), AB4 A_I/O (io), AB5 A_I/O (io), AB6 A_I/O (io), AB18 B_I/O (io), AB19 A_I/O (io), AB20 TRST (in), AB21 TCK (in), AB22 TMS (in), B1 CLKLK_OUT1p, B20 CLKLK_ENA (in), B21 nCE (in), C1 CLKLK_OUT1n, C20 nCONFIG (in), C21 MSEL0 (in), C22 VCCSEL (in), D1 CLKLK_FB1p (in), D20 DATA0 (in), D21 nIO_PULLUP (in), D22 nCEO (out), E1 CLKLK_FB1n, CLKLK_FB1VREF (in), E20 PLLRDY (out), E21 DCLK (io), E22 MSEL1 (in), L6 C_I/O (io), L7 C_I/O (io), L8 C_I/O (io), L10 CLK1p (in), L11 CLK2p (in), M1 A_I/O (io), M2 A_I/O (io), M3 B_I/O (io), M4 B_I/O (io), M5 C_I/O (io), M8 C_I/O (io), M9 C_I/O (io), M10 CLK1n, CLK1VREF (in), M11 CLK2n, CLK2VREF (in), N1 A_I/O (io), N2 A_I/O (io), N3 B_I/O (io), N4 B_I/O (io), N8 C_I/O (io), N9 B_I/O (io), N10 C_I/O (io), N11 A_I/O, FAST_ROW5 (io), P2 C_I/O, VREF10 (io), P3 B_I/O (io), P4 B_I/O (io), P5 B_I/O (io), P6 C_I/O (io), P10 C_I/O (io), P11 C_I/O (io), R2 A_I/O (io), R3 B_I/O (io), R4 B_I/O (io), R5 B_I/O (io), R6 B_I/O (io), R7 B_I/O (io), R8 C_I/O (io), R9 C_I/O (io), R10 C_I/O (io), R11 C_I/O (io), T1 A_I/O (io), T2 A_I/O (io), T3 A_I/O (io), T4 B_I/O (io), T15 B_I/O (io), U1 A_I/O (io), U2 A_I/O (io), U3 C_I/O, LOCK2 (io), U8 B_I/O (io), U9 C_I/O, VREF12 (io), U10 C_I/O (io), U11 A_I/O, FAST_ROW7 (io), U12 C_I/O, FAST_ROW8 (io), U14 A_I/O (io), U15 B_I/O (io), U19 A_I/O (io), U20 A_I/O, VREF11 (io), U21 A_I/O (io), V1 CLKLK_FB2n, CLKLK_FB2VREF (in), V5 B_I/O (io), V8 B_I/O (io), V9 B_I/O (io), V12 C_I/O (io), V19 B_I/O (io), V20 A_I/O (io), V21 A_I/O (io), W1 CLKLK_FB2p (in), W4 A_I/O (io), W5 A_I/O (io), W6 B_I/O (io), W7 B_I/O (io), W8 C_I/O (io), W9 B_I/O (io), W10 C_I/O (io), W11 C_I/O (io), W12 C_I/O (io), W13 C_I/O (io), W14 C_I/O (io), W15 C_I/O (io), W16 B_I/O (io), W17 B_I/O (io), W18 B_I/O (io), W19 B_I/O (io), W20 A_I/O (io), W21 A_I/O (io), Y1 CLKLK_OUT2n, Y3 A_I/O (io), Y4 A_I/O (io), Y5 A_I/O (io), Y6 B_I/O (io), Y7 A_I/O (io), Y8 B_I/O (io), Y9 B_I/O (io), Y10 C_I/O (io), Y11 C_I/O (io), Y12 C_I/O (io), Y13 C_I/O (io), Y14 C_I/O (io), Y15 C_I/O (io), Y16 C_I/O (io), Y17 B_I/O (io), Y18 A_I/O (io), Y19 A_I/O (io), Y20 A_I/O (io), Y21 A_I/O (io), Y22 TDO (out)
part D pins: A1 GND (power), A2 VCCIO6 (power), A18 GND (power), A19 VCCIO5 (power), A20 VCCIO13 (power), AA2 VCCA_CKLK2 (power), AA21 VCCIO14 (power), AB1 VCCIO12 (power), AB2 GND (power), B2 VCCA_CKLK1 (power), B6 GND (power), B22 GND (power), C2 VCC_CKOUT1 (power), C6 GND (power), C7 GND (power), C8 GND (power), C9 GND (power), C11 GND (power), C12 GND (power), C13 GND (power), C14 GND (power), C15 GND (power), D2 VCCA_CKLK1 (power), D3 GND (power), D8 GND (power), D9 GND (power), D10 GND (power), D12 VCCIO4 (power), D13 GND (power), D14 GND (power), D15 GND (power), E2 VCCD_CKLK1 (power), E3 GND (power), E4 GND (power), E6 VCCD_TX (power), E7 VCCD_RX (power), E11 VCCD_HSDI1 (power), E12 VCCA_HSDI2 (power), E16 VCCD_RX (power), E17 VCCD_TX (power), F1 VCCIO8 (power), F4 GND (power), F6 VCCIO6 (power), F7 VCCIO3 (power), F8 GND (power), F10 VCCA_HSDI1 (power), F11 VCCINT (power), F12 VCCD_HSDI2 (power), F14 GND (power), F16 VCCIO1 (power), F17 VCCIO5 (power), G1 GND (power), G4 VCCIO8 (power), G5 VCCIO8 (power), G6 VCCIO8 (power), G7 VCCIO4 (power), G8 GND (power), G9 VCCINT (power), G10 VCCD_RX (power), G12 GND (power), G13 VCCD_RX (power), G14 GND (power), G15 GND (power), G16 VCCINT (power), G17 VCCINT (power), G18 VCCIO4 (power), G19 VCCINT (power), G22 VCCIO7 (power), H8 GND (power), H9 GND (power), H10 GND (power), H14 GND (power), H16 VCCIO7 (power), H20 VCCIO7 (power), H22 VCCIO7 (power), J7 VCCINT (power), J9 GND (power), J11 VCCD_RX (power), J12 GND (power), J13 GND (power), J14 GND (power), J15 GND (power), J16 VCCINT (power), K6 GND (power), K7 VCCINT (power), K16 GND (power), K17 VCCINT (power), M6 GND (power), M7 VCCINT (power), M17 GND (power), M18 VCCINT (power), N5 VCCIO10 (power), N6 VCCIO10 (power), N7 VCCIO10 (power), P1 VCCIO10 (power), P7 GND (power), P8 GND (power), P9 GND (power), P14 GND (power), P15 GND (power), P16 GND (power), P22 VCCIO9 (power), R1 GND (power), R16 VCCIO9 (power), R17 VCCIO9 (power), R18 VCCIO9 (power), R22 GND (power), T5 GND (power), T6 VCCINT (power), T7 VCCINT (power), T8 GND (power), T9 GND (power), T10 GND (power), T11 GND (power), T14 GND (power), T16 VCCINT (power), T17 GND (power), T18 VCCINT (power), U4 GND (power), U5 VCCIO12 (power), U6 VCCIO12 (power), U7 VCCIO12 (power), U13 GND (power), U16 VCCIO11 (power), U17 VCCIO11 (power), U18 VCCIO11 (power), V2 VCCD_CKLK2 (power), V3 GND (power), V4 GND (power), V6 VCCINT (power), V7 VCCINT (power), V10 GND (power), V11 GND (power), V13 GND (power), V14 GND (power), V15 GND (power), V16 VCCINT (power), V17 GND (power), V18 VCCINT (power), V22 VCCIO11 (power), W2 VCCA_CKLK2 (power), W3 GND (power), W22 GND (power), Y2 VCC_CKOUT2 (power)
part A text: BANK 1; BANK 4; HSDI; BANK 2; BANK 3
part B text: BANK 6; BANK 5; BANK 7; BANK 9; BANK 8
part C text: BANK 10; BANK 11; BANK 12

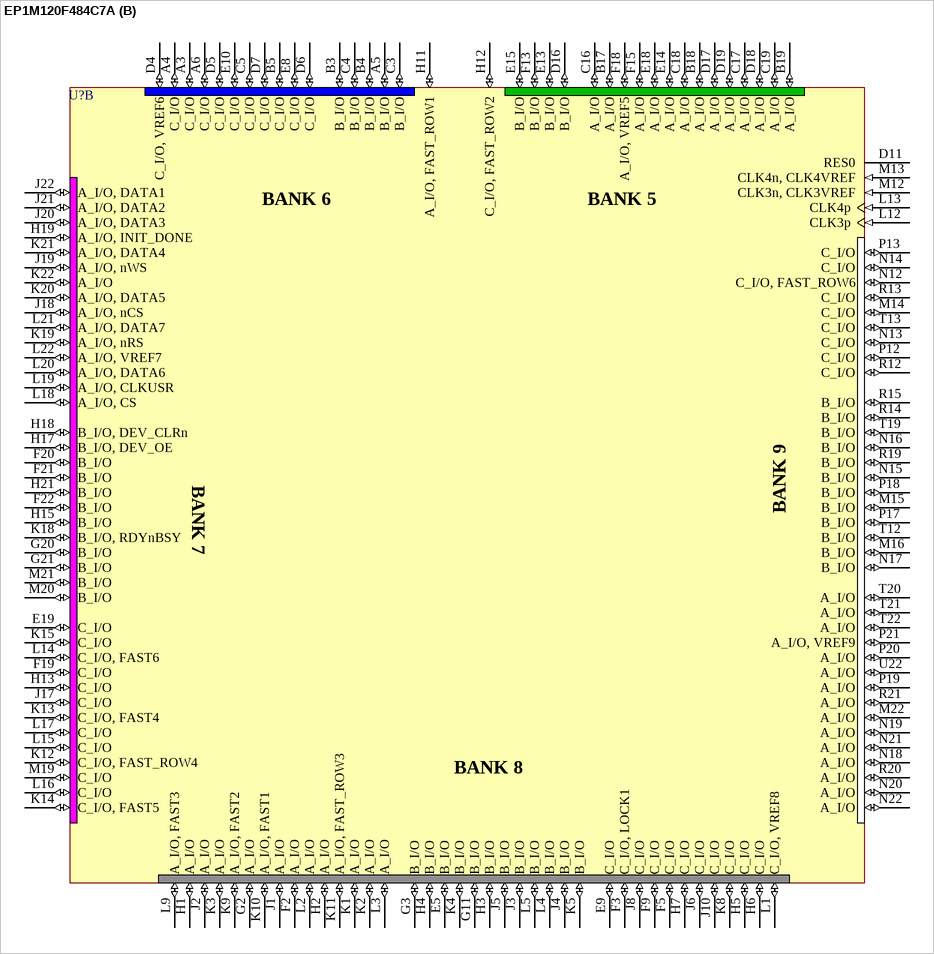
[diagram p9: symbol EP1M120F484C7A]

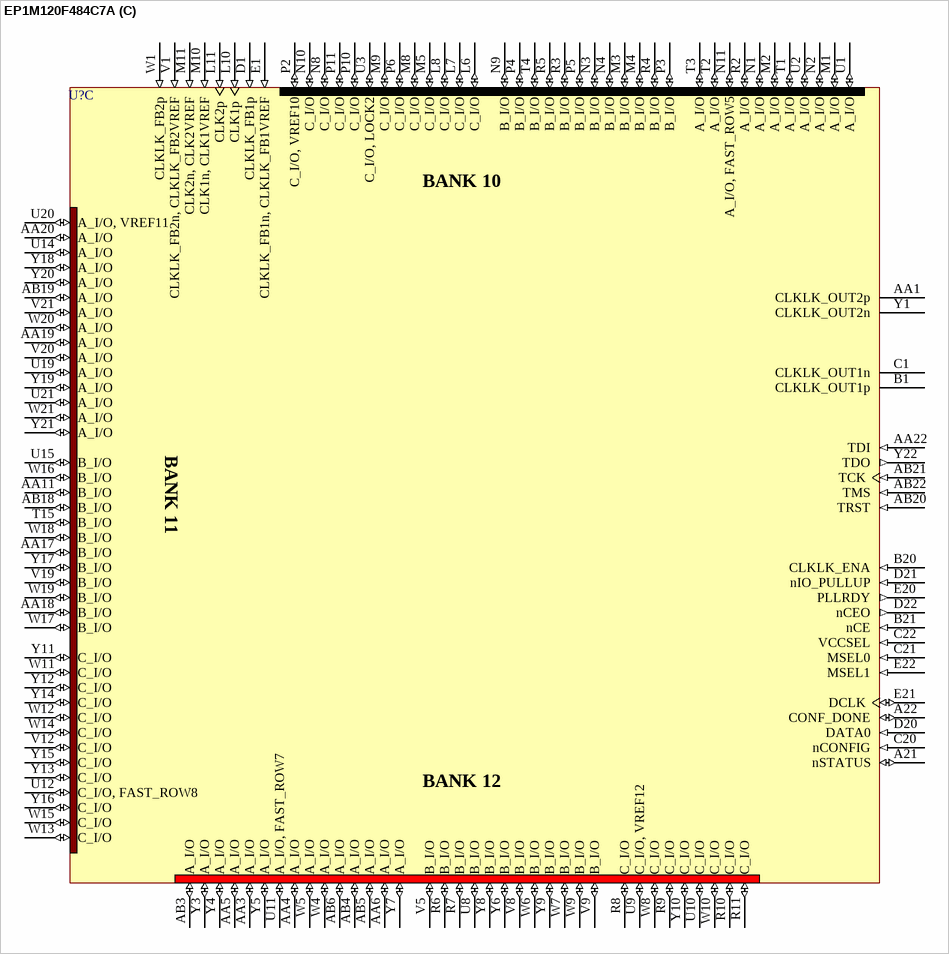
[diagram p10: symbol EP1M120F484C7A]

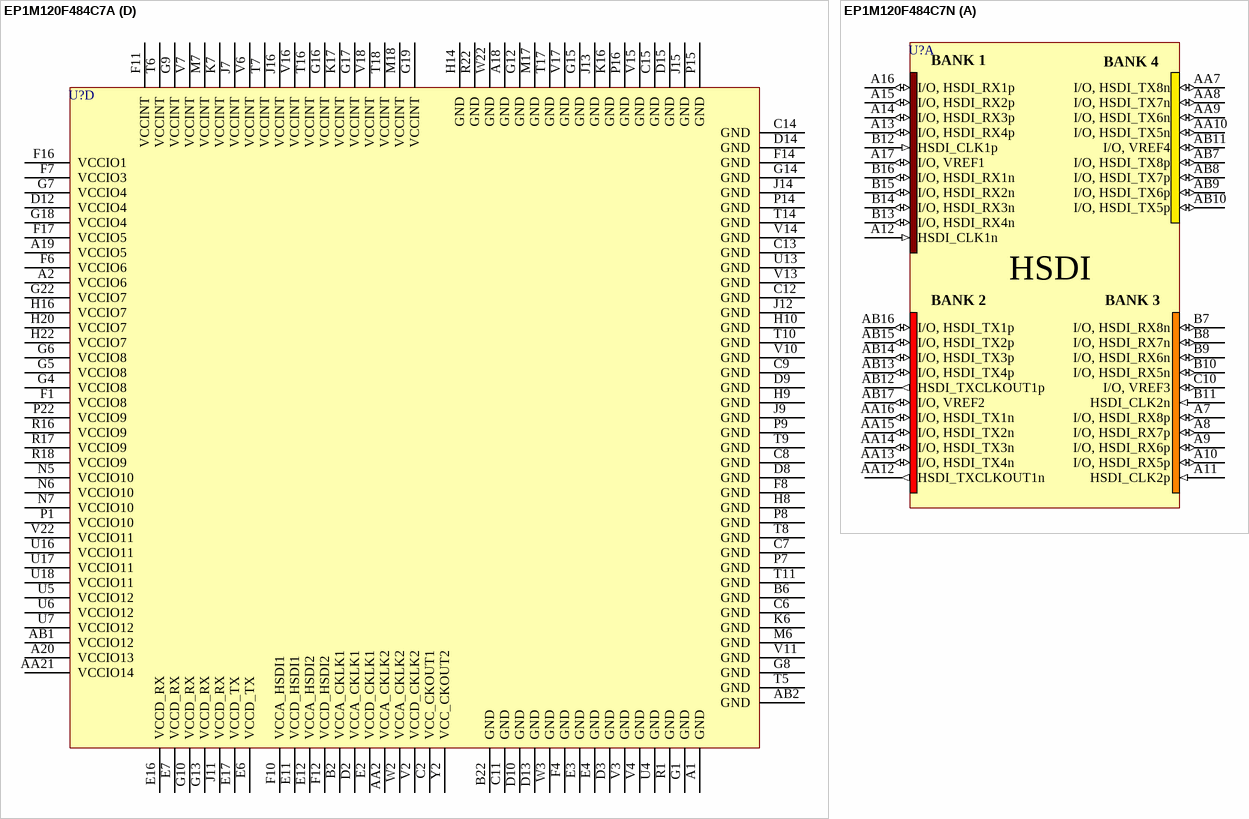
[diagram p11: symbols EP1M120F484C7A to EP1M120F484C7N]

## EP1M120F484C7A
designator U?
Mercury 1.8V FPGA, 303 I/O pins, 484-Pin FineLine BGA, Speed Grade 7, Commercial Grade; Published: 28-Feb-2003; LatestRevisionDate: 13-Apr-2006; LatestRevisionNote: IPC-7351 Footprint Added.; DatasheetVersion: ver2.2, Jan-2003; PackageVersion: ver14.1, Oct-2005; PackageReference: FBGA484; Publisher: Altium Limited; PackageDescription: 484-Ball FineLine Ball Grid Array (FBGA484) - Flip Chip; Code_JEDEC: MS-034-AAJ-1; Code_IPC: BGA100P22X22-484; ComponentLink1Description: Manufacturer Link; ComponentLink1URL: http://www.altera.com/products/devices/mercury/overview/mcy-overview.html; ComponentLink2Description: Datasheet; ComponentLink2URL: http://www.altera.com/literature/ds/dsmercury.pdf; ComponentLink3Description: Packaging Specification; ComponentLink3URL: http://www.altera.com/literature/ds/dspkg.pdf
footprint FBGA484 (BGA, 484-Leads, Body 23x23mm, Pitch 1mm)
3D model EP1M120-FBGA484T (484-Ball FineLine Ball Grid Array (FBGA484) - Flip Chip)
part A pins: A7 I/O, HSDI_RX8p (io), A8 I/O, HSDI_RX7p (io), A9 I/O, HSDI_RX6p (io), A10 I/O, HSDI_RX5p (io), A11 HSDI_CLK2p (in), A12 HSDI_CLK1n (in), A13 I/O, HSDI_RX4p (io), A14 I/O, HSDI_RX3p (io), A15 I/O, HSDI_RX2p (io), A16 I/O, HSDI_RX1p (io), A17 I/O, VREF1 (io), AA7 I/O, HSDI_TX8n (io), AA8 I/O, HSDI_TX7n (io), AA9 I/O, HSDI_TX6n (io), AA10 I/O, HSDI_TX5n (io), AA12 HSDI_TXCLKOUT1n (out), AA13 I/O, HSDI_TX4n (io), AA14 I/O, HSDI_TX3n (io), AA15 I/O, HSDI_TX2n (io), AA16 I/O, HSDI_TX1n (io), AB7 I/O, HSDI_TX8p (io), AB8 I/O, HSDI_TX7p (io), AB9 I/O, HSDI_TX6p (io), AB10 I/O, HSDI_TX5p (io), AB11 I/O, VREF4 (io), AB12 HSDI_TXCLKOUT1p (out), AB13 I/O, HSDI_TX4p (io), AB14 I/O, HSDI_TX3p (io), AB15 I/O, HSDI_TX2p (io), AB16 I/O, HSDI_TX1p (io), AB17 I/O, VREF2 (io), B7 I/O, HSDI_RX8n (io), B8 I/O, HSDI_RX7n (io), B9 I/O, HSDI_RX6n (io), B10 I/O, HSDI_RX5n (io), B11 HSDI_CLK2n (in), B12 HSDI_CLK1p (in), B13 I/O, HSDI_RX4n (io), B14 I/O, HSDI_RX3n (io), B15 I/O, HSDI_RX2n (io), B16 I/O, HSDI_RX1n (io), C10 I/O, VREF3 (io)
part B pins: A3 C_I/O (io), A4 C_I/O (io), A5 B_I/O (io), A6 C_I/O (io), B3 B_I/O (io), B4 B_I/O (io), B5 C_I/O (io), B17 A_I/O (io), B18 A_I/O (io), B19 A_I/O (io), C3 B_I/O (io), C4 B_I/O (io), C5 C_I/O (io), C16 A_I/O (io), C17 A_I/O (io), C18 A_I/O (io), C19 A_I/O (io), D4 C_I/O, VREF6 (io), D5 C_I/O (io), D6 C_I/O (io), D7 C_I/O (io), D11 RES0, D16 B_I/O (io), D17 A_I/O (io), D18 A_I/O (io), D19 A_I/O (io), E5 B_I/O (io), E8 C_I/O (io), E9 C_I/O (io), E10 C_I/O (io), E13 B_I/O (io), E14 A_I/O (io), E15 B_I/O (io), E18 A_I/O (io), E19 C_I/O (io), F2 A_I/O (io), F3 C_I/O, LOCK1 (io), F5 C_I/O (io), F9 C_I/O (io), F13 B_I/O (io), F15 A_I/O (io), F18 A_I/O, VREF5 (io), F19 C_I/O (io), F20 B_I/O (io), F21 B_I/O (io), F22 B_I/O (io), G2 A_I/O (io), G3 B_I/O (io), G11 B_I/O (io), G20 B_I/O (io), G21 B_I/O (io), H1 A_I/O (io), H2 A_I/O (io), H3 B_I/O (io), H4 B_I/O (io), H5 C_I/O (io), H6 C_I/O (io), H7 C_I/O (io), H11 A_I/O, FAST_ROW1 (io), H12 C_I/O, FAST_ROW2 (io), H13 C_I/O (io), H15 B_I/O (io), H17 B_I/O, DEV_OE (io), H18 B_I/O, DEV_CLRn (io), H19 A_I/O, INIT_DONE (io), H21 B_I/O (io), J1 A_I/O (io), J2 A_I/O (io), J3 B_I/O (io), J4 B_I/O (io), J5 B_I/O (io), J6 C_I/O (io), J8 C_I/O (io), J10 C_I/O (io), J17 C_I/O (io), J18 A_I/O, nCS (io), J19 A_I/O, nWS (io), J20 A_I/O, DATA3 (io), J21 A_I/O, DATA2 (io), J22 A_I/O, DATA1 (io), K1 A_I/O (io), K2 A_I/O (io), K3 A_I/O (io), K4 B_I/O (io), K5 B_I/O (io), K8 C_I/O (io), K9 A_I/O, FAST2 (io), K10 A_I/O, FAST1 (io), K11 A_I/O, FAST_ROW3 (io), K12 C_I/O, FAST_ROW4 (io), K13 C_I/O, FAST4 (io), K14 C_I/O, FAST5 (io), K15 C_I/O (io), K18 B_I/O, RDYnBSY (io), K19 A_I/O, nRS (io), K20 A_I/O, DATA5 (io), K21 A_I/O, DATA4 (io), K22 A_I/O (io), L1 C_I/O, VREF8 (io), L2 A_I/O (io), L3 A_I/O (io), L4 B_I/O (io), L5 B_I/O (io), L9 A_I/O, FAST3 (io), L12 CLK3p (in), L13 CLK4p (in), L14 C_I/O, FAST6 (io), L15 C_I/O (io), L16 C_I/O (io), L17 C_I/O (io), L18 A_I/O, CS (io), L19 A_I/O, CLKUSR (io), L20 A_I/O, DATA6 (io), L21 A_I/O, DATA7 (io), L22 A_I/O, VREF7 (io), M12 CLK3n, CLK3VREF (in), M13 CLK4n, CLK4VREF (in), M14 C_I/O (io), M15 B_I/O (io), M16 B_I/O (io), M19 C_I/O (io), M20 B_I/O (io), M21 B_I/O (io), M22 A_I/O (io), N12 C_I/O, FAST_ROW6 (io), N13 C_I/O (io), N14 C_I/O (io), N15 B_I/O (io), N16 B_I/O (io), N17 B_I/O (io), N18 A_I/O (io), N19 A_I/O (io), N20 A_I/O (io), N21 A_I/O (io), N22 A_I/O (io), P12 C_I/O (io), P13 C_I/O (io), P17 B_I/O (io), P18 B_I/O (io), P19 A_I/O (io), P20 A_I/O (io), P21 A_I/O, VREF9 (io), R12 C_I/O (io), R13 C_I/O (io), R14 B_I/O (io), R15 B_I/O (io), R19 B_I/O (io), R20 A_I/O (io), R21 A_I/O (io), T12 B_I/O (io), T13 C_I/O (io), T19 B_I/O (io), T20 A_I/O (io), T21 A_I/O (io), T22 A_I/O (io), U22 A_I/O (io)
part C pins: A21 nSTATUS (io), A22 CONF_DONE (io), AA1 CLKLK_OUT2p, AA3 A_I/O (io), AA4 A_I/O (io), AA5 A_I/O (io), AA6 A_I/O (io), AA11 B_I/O (io), AA17 B_I/O (io), AA18 B_I/O (io), AA19 A_I/O (io), AA20 A_I/O (io), AA22 TDI (in), AB3 A_I/O (io), AB4 A_I/O (io), AB5 A_I/O (io), AB6 A_I/O (io), AB18 B_I/O (io), AB19 A_I/O (io), AB20 TRST (in), AB21 TCK (in), AB22 TMS (in), B1 CLKLK_OUT1p, B20 CLKLK_ENA (in), B21 nCE (in), C1 CLKLK_OUT1n, C20 nCONFIG (in), C21 MSEL0 (in), C22 VCCSEL (in), D1 CLKLK_FB1p (in), D20 DATA0 (in), D21 nIO_PULLUP (in), D22 nCEO (out), E1 CLKLK_FB1n, CLKLK_FB1VREF (in), E20 PLLRDY (out), E21 DCLK (io), E22 MSEL1 (in), L6 C_I/O (io), L7 C_I/O (io), L8 C_I/O (io), L10 CLK1p (in), L11 CLK2p (in), M1 A_I/O (io), M2 A_I/O (io), M3 B_I/O (io), M4 B_I/O (io), M5 C_I/O (io), M8 C_I/O (io), M9 C_I/O (io), M10 CLK1n, CLK1VREF (in), M11 CLK2n, CLK2VREF (in), N1 A_I/O (io), N2 A_I/O (io), N3 B_I/O (io), N4 B_I/O (io), N8 C_I/O (io), N9 B_I/O (io), N10 C_I/O (io), N11 A_I/O, FAST_ROW5 (io), P2 C_I/O, VREF10 (io), P3 B_I/O (io), P4 B_I/O (io), P5 B_I/O (io), P6 C_I/O (io), P10 C_I/O (io), P11 C_I/O (io), R2 A_I/O (io), R3 B_I/O (io), R4 B_I/O (io), R5 B_I/O (io), R6 B_I/O (io), R7 B_I/O (io), R8 C_I/O (io), R9 C_I/O (io), R10 C_I/O (io), R11 C_I/O (io), T1 A_I/O (io), T2 A_I/O (io), T3 A_I/O (io), T4 B_I/O (io), T15 B_I/O (io), U1 A_I/O (io), U2 A_I/O (io), U3 C_I/O, LOCK2 (io), U8 B_I/O (io), U9 C_I/O, VREF12 (io), U10 C_I/O (io), U11 A_I/O, FAST_ROW7 (io), U12 C_I/O, FAST_ROW8 (io), U14 A_I/O (io), U15 B_I/O (io), U19 A_I/O (io), U20 A_I/O, VREF11 (io), U21 A_I/O (io), V1 CLKLK_FB2n, CLKLK_FB2VREF (in), V5 B_I/O (io), V8 B_I/O (io), V9 B_I/O (io), V12 C_I/O (io), V19 B_I/O (io), V20 A_I/O (io), V21 A_I/O (io), W1 CLKLK_FB2p (in), W4 A_I/O (io), W5 A_I/O (io), W6 B_I/O (io), W7 B_I/O (io), W8 C_I/O (io), W9 B_I/O (io), W10 C_I/O (io), W11 C_I/O (io), W12 C_I/O (io), W13 C_I/O (io), W14 C_I/O (io), W15 C_I/O (io), W16 B_I/O (io), W17 B_I/O (io), W18 B_I/O (io), W19 B_I/O (io), W20 A_I/O (io), W21 A_I/O (io), Y1 CLKLK_OUT2n, Y3 A_I/O (io), Y4 A_I/O (io), Y5 A_I/O (io), Y6 B_I/O (io), Y7 A_I/O (io), Y8 B_I/O (io), Y9 B_I/O (io), Y10 C_I/O (io), Y11 C_I/O (io), Y12 C_I/O (io), Y13 C_I/O (io), Y14 C_I/O (io), Y15 C_I/O (io), Y16 C_I/O (io), Y17 B_I/O (io), Y18 A_I/O (io), Y19 A_I/O (io), Y20 A_I/O (io), Y21 A_I/O (io), Y22 TDO (out)
part D pins: A1 GND (power), A2 VCCIO6 (power), A18 GND (power), A19 VCCIO5 (power), A20 VCCIO13 (power), AA2 VCCA_CKLK2 (power), AA21 VCCIO14 (power), AB1 VCCIO12 (power), AB2 GND (power), B2 VCCA_CKLK1 (power), B6 GND (power), B22 GND (power), C2 VCC_CKOUT1 (power), C6 GND (power), C7 GND (power), C8 GND (power), C9 GND (power), C11 GND (power), C12 GND (power), C13 GND (power), C14 GND (power), C15 GND (power), D2 VCCA_CKLK1 (power), D3 GND (power), D8 GND (power), D9 GND (power), D10 GND (power), D12 VCCIO4 (power), D13 GND (power), D14 GND (power), D15 GND (power), E2 VCCD_CKLK1 (power), E3 GND (power), E4 GND (power), E6 VCCD_TX (power), E7 VCCD_RX (power), E11 VCCD_HSDI1 (power), E12 VCCA_HSDI2 (power), E16 VCCD_RX (power), E17 VCCD_TX (power), F1 VCCIO8 (power), F4 GND (power), F6 VCCIO6 (power), F7 VCCIO3 (power), F8 GND (power), F10 VCCA_HSDI1 (power), F11 VCCINT (power), F12 VCCD_HSDI2 (power), F14 GND (power), F16 VCCIO1 (power), F17 VCCIO5 (power), G1 GND (power), G4 VCCIO8 (power), G5 VCCIO8 (power), G6 VCCIO8 (power), G7 VCCIO4 (power), G8 GND (power), G9 VCCINT (power), G10 VCCD_RX (power), G12 GND (power), G13 VCCD_RX (power), G14 GND (power), G15 GND (power), G16 VCCINT (power), G17 VCCINT (power), G18 VCCIO4 (power), G19 VCCINT (power), G22 VCCIO7 (power), H8 GND (power), H9 GND (power), H10 GND (power), H14 GND (power), H16 VCCIO7 (power), H20 VCCIO7 (power), H22 VCCIO7 (power), J7 VCCINT (power), J9 GND (power), J11 VCCD_RX (power), J12 GND (power), J13 GND (power), J14 GND (power), J15 GND (power), J16 VCCINT (power), K6 GND (power), K7 VCCINT (power), K16 GND (power), K17 VCCINT (power), M6 GND (power), M7 VCCINT (power), M17 GND (power), M18 VCCINT (power), N5 VCCIO10 (power), N6 VCCIO10 (power), N7 VCCIO10 (power), P1 VCCIO10 (power), P7 GND (power), P8 GND (power), P9 GND (power), P14 GND (power), P15 GND (power), P16 GND (power), P22 VCCIO9 (power), R1 GND (power), R16 VCCIO9 (power), R17 VCCIO9 (power), R18 VCCIO9 (power), R22 GND (power), T5 GND (power), T6 VCCINT (power), T7 VCCINT (power), T8 GND (power), T9 GND (power), T10 GND (power), T11 GND (power), T14 GND (power), T16 VCCINT (power), T17 GND (power), T18 VCCINT (power), U4 GND (power), U5 VCCIO12 (power), U6 VCCIO12 (power), U7 VCCIO12 (power), U13 GND (power), U16 VCCIO11 (power), U17 VCCIO11 (power), U18 VCCIO11 (power), V2 VCCD_CKLK2 (power), V3 GND (power), V4 GND (power), V6 VCCINT (power), V7 VCCINT (power), V10 GND (power), V11 GND (power), V13 GND (power), V14 GND (power), V15 GND (power), V16 VCCINT (power), V17 GND (power), V18 VCCINT (power), V22 VCCIO11 (power), W2 VCCA_CKLK2 (power), W3 GND (power), W22 GND (power), Y2 VCC_CKOUT2 (power)
part A text: BANK 1; BANK 4; HSDI; BANK 2; BANK 3
part B text: BANK 6; BANK 5; BANK 7; BANK 9; BANK 8
part C text: BANK 10; BANK 11; BANK 12

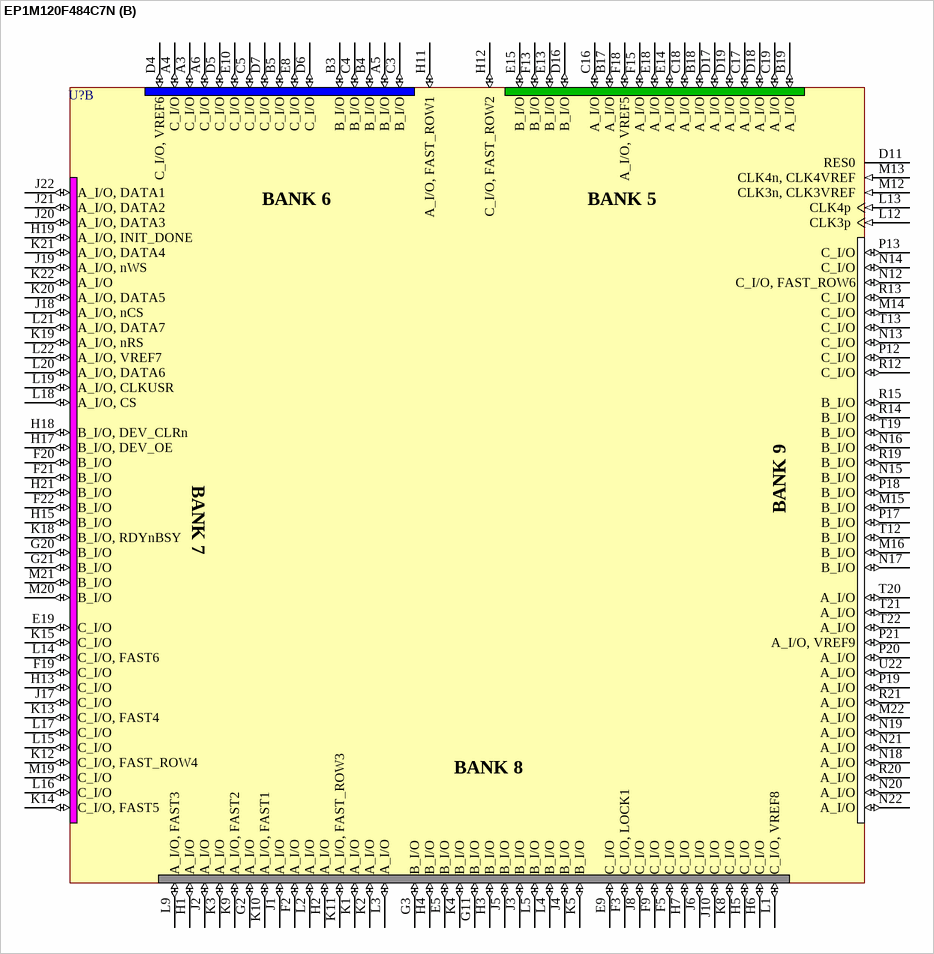
[diagram p12: symbol EP1M120F484C7N]

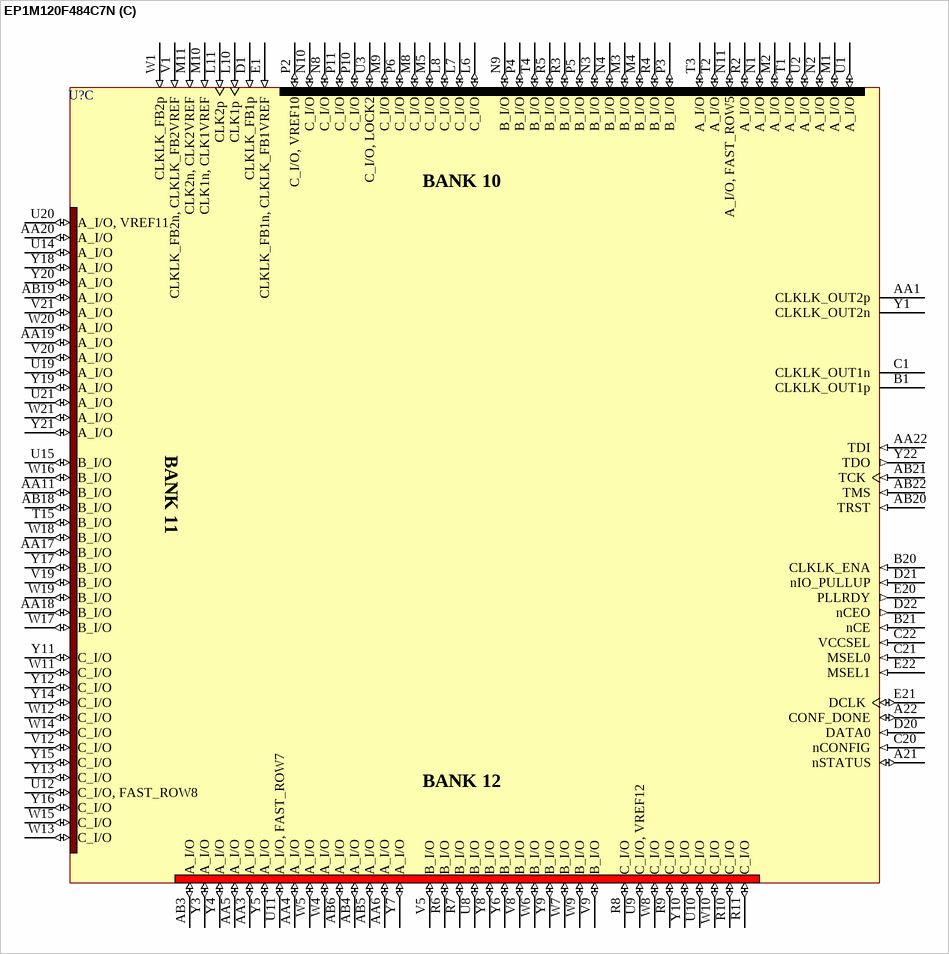
[diagram p13: symbol EP1M120F484C7N]

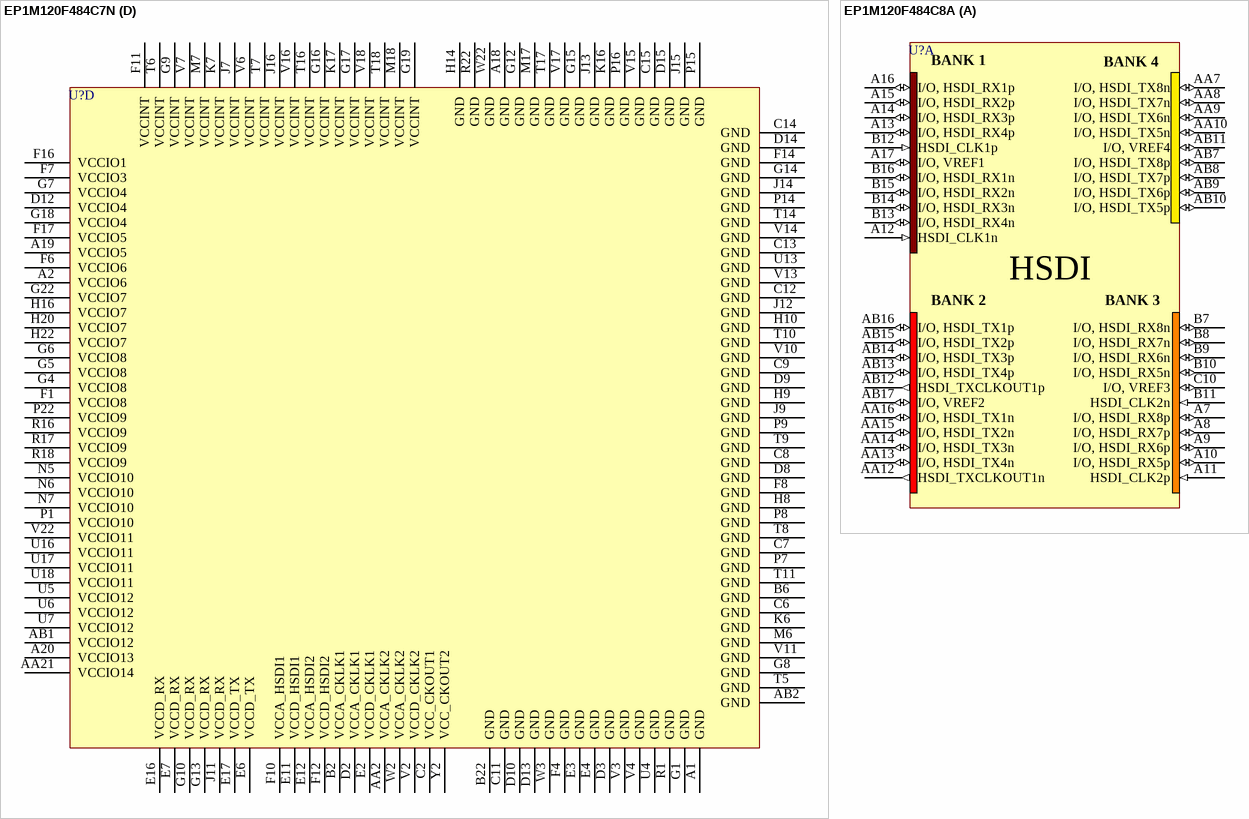
[diagram p14: symbols EP1M120F484C7N to EP1M120F484C8A]

## EP1M120F484C7N
designator U?
Mercury 1.8V FPGA, 303 I/O pins, 484-Pin FineLine BGA, Speed Grade 7, Commercial Grade, Pb-Free; Published: 4-Mar-2005; LatestRevisionDate: 13-Apr-2006; LatestRevisionNote: IPC-7351 Footprint Added.; DatasheetVersion: ver2.2, Jan-2003; PackageVersion: ver14.1, Oct-2005; PackageReference: FBGA484; Publisher: Altium Limited; PackageDescription: 484-Ball FineLine Ball Grid Array (FBGA484) - Flip Chip; Code_JEDEC: MS-034-AAJ-1; Code_IPC: BGA100P22X22-484; ComponentLink1Description: Manufacturer Link; ComponentLink1URL: http://www.altera.com/products/devices/mercury/overview/mcy-overview.html; ComponentLink2Description: Datasheet; ComponentLink2URL: http://www.altera.com/literature/ds/dsmercury.pdf; ComponentLink3Description: Packaging Specification; ComponentLink3URL: http://www.altera.com/literature/ds/dspkg.pdf
footprint FBGA484 (BGA, 484-Leads, Body 23x23mm, Pitch 1mm)
3D model EP1M120-FBGA484T (484-Ball FineLine Ball Grid Array (FBGA484) - Flip Chip)
part A pins: A7 I/O, HSDI_RX8p (io), A8 I/O, HSDI_RX7p (io), A9 I/O, HSDI_RX6p (io), A10 I/O, HSDI_RX5p (io), A11 HSDI_CLK2p (in), A12 HSDI_CLK1n (in), A13 I/O, HSDI_RX4p (io), A14 I/O, HSDI_RX3p (io), A15 I/O, HSDI_RX2p (io), A16 I/O, HSDI_RX1p (io), A17 I/O, VREF1 (io), AA7 I/O, HSDI_TX8n (io), AA8 I/O, HSDI_TX7n (io), AA9 I/O, HSDI_TX6n (io), AA10 I/O, HSDI_TX5n (io), AA12 HSDI_TXCLKOUT1n (out), AA13 I/O, HSDI_TX4n (io), AA14 I/O, HSDI_TX3n (io), AA15 I/O, HSDI_TX2n (io), AA16 I/O, HSDI_TX1n (io), AB7 I/O, HSDI_TX8p (io), AB8 I/O, HSDI_TX7p (io), AB9 I/O, HSDI_TX6p (io), AB10 I/O, HSDI_TX5p (io), AB11 I/O, VREF4 (io), AB12 HSDI_TXCLKOUT1p (out), AB13 I/O, HSDI_TX4p (io), AB14 I/O, HSDI_TX3p (io), AB15 I/O, HSDI_TX2p (io), AB16 I/O, HSDI_TX1p (io), AB17 I/O, VREF2 (io), B7 I/O, HSDI_RX8n (io), B8 I/O, HSDI_RX7n (io), B9 I/O, HSDI_RX6n (io), B10 I/O, HSDI_RX5n (io), B11 HSDI_CLK2n (in), B12 HSDI_CLK1p (in), B13 I/O, HSDI_RX4n (io), B14 I/O, HSDI_RX3n (io), B15 I/O, HSDI_RX2n (io), B16 I/O, HSDI_RX1n (io), C10 I/O, VREF3 (io)
part B pins: A3 C_I/O (io), A4 C_I/O (io), A5 B_I/O (io), A6 C_I/O (io), B3 B_I/O (io), B4 B_I/O (io), B5 C_I/O (io), B17 A_I/O (io), B18 A_I/O (io), B19 A_I/O (io), C3 B_I/O (io), C4 B_I/O (io), C5 C_I/O (io), C16 A_I/O (io), C17 A_I/O (io), C18 A_I/O (io), C19 A_I/O (io), D4 C_I/O, VREF6 (io), D5 C_I/O (io), D6 C_I/O (io), D7 C_I/O (io), D11 RES0, D16 B_I/O (io), D17 A_I/O (io), D18 A_I/O (io), D19 A_I/O (io), E5 B_I/O (io), E8 C_I/O (io), E9 C_I/O (io), E10 C_I/O (io), E13 B_I/O (io), E14 A_I/O (io), E15 B_I/O (io), E18 A_I/O (io), E19 C_I/O (io), F2 A_I/O (io), F3 C_I/O, LOCK1 (io), F5 C_I/O (io), F9 C_I/O (io), F13 B_I/O (io), F15 A_I/O (io), F18 A_I/O, VREF5 (io), F19 C_I/O (io), F20 B_I/O (io), F21 B_I/O (io), F22 B_I/O (io), G2 A_I/O (io), G3 B_I/O (io), G11 B_I/O (io), G20 B_I/O (io), G21 B_I/O (io), H1 A_I/O (io), H2 A_I/O (io), H3 B_I/O (io), H4 B_I/O (io), H5 C_I/O (io), H6 C_I/O (io), H7 C_I/O (io), H11 A_I/O, FAST_ROW1 (io), H12 C_I/O, FAST_ROW2 (io), H13 C_I/O (io), H15 B_I/O (io), H17 B_I/O, DEV_OE (io), H18 B_I/O, DEV_CLRn (io), H19 A_I/O, INIT_DONE (io), H21 B_I/O (io), J1 A_I/O (io), J2 A_I/O (io), J3 B_I/O (io), J4 B_I/O (io), J5 B_I/O (io), J6 C_I/O (io), J8 C_I/O (io), J10 C_I/O (io), J17 C_I/O (io), J18 A_I/O, nCS (io), J19 A_I/O, nWS (io), J20 A_I/O, DATA3 (io), J21 A_I/O, DATA2 (io), J22 A_I/O, DATA1 (io), K1 A_I/O (io), K2 A_I/O (io), K3 A_I/O (io), K4 B_I/O (io), K5 B_I/O (io), K8 C_I/O (io), K9 A_I/O, FAST2 (io), K10 A_I/O, FAST1 (io), K11 A_I/O, FAST_ROW3 (io), K12 C_I/O, FAST_ROW4 (io), K13 C_I/O, FAST4 (io), K14 C_I/O, FAST5 (io), K15 C_I/O (io), K18 B_I/O, RDYnBSY (io), K19 A_I/O, nRS (io), K20 A_I/O, DATA5 (io), K21 A_I/O, DATA4 (io), K22 A_I/O (io), L1 C_I/O, VREF8 (io), L2 A_I/O (io), L3 A_I/O (io), L4 B_I/O (io), L5 B_I/O (io), L9 A_I/O, FAST3 (io), L12 CLK3p (in), L13 CLK4p (in), L14 C_I/O, FAST6 (io), L15 C_I/O (io), L16 C_I/O (io), L17 C_I/O (io), L18 A_I/O, CS (io), L19 A_I/O, CLKUSR (io), L20 A_I/O, DATA6 (io), L21 A_I/O, DATA7 (io), L22 A_I/O, VREF7 (io), M12 CLK3n, CLK3VREF (in), M13 CLK4n, CLK4VREF (in), M14 C_I/O (io), M15 B_I/O (io), M16 B_I/O (io), M19 C_I/O (io), M20 B_I/O (io), M21 B_I/O (io), M22 A_I/O (io), N12 C_I/O, FAST_ROW6 (io), N13 C_I/O (io), N14 C_I/O (io), N15 B_I/O (io), N16 B_I/O (io), N17 B_I/O (io), N18 A_I/O (io), N19 A_I/O (io), N20 A_I/O (io), N21 A_I/O (io), N22 A_I/O (io), P12 C_I/O (io), P13 C_I/O (io), P17 B_I/O (io), P18 B_I/O (io), P19 A_I/O (io), P20 A_I/O (io), P21 A_I/O, VREF9 (io), R12 C_I/O (io), R13 C_I/O (io), R14 B_I/O (io), R15 B_I/O (io), R19 B_I/O (io), R20 A_I/O (io), R21 A_I/O (io), T12 B_I/O (io), T13 C_I/O (io), T19 B_I/O (io), T20 A_I/O (io), T21 A_I/O (io), T22 A_I/O (io), U22 A_I/O (io)
part C pins: A21 nSTATUS (io), A22 CONF_DONE (io), AA1 CLKLK_OUT2p, AA3 A_I/O (io), AA4 A_I/O (io), AA5 A_I/O (io), AA6 A_I/O (io), AA11 B_I/O (io), AA17 B_I/O (io), AA18 B_I/O (io), AA19 A_I/O (io), AA20 A_I/O (io), AA22 TDI (in), AB3 A_I/O (io), AB4 A_I/O (io), AB5 A_I/O (io), AB6 A_I/O (io), AB18 B_I/O (io), AB19 A_I/O (io), AB20 TRST (in), AB21 TCK (in), AB22 TMS (in), B1 CLKLK_OUT1p, B20 CLKLK_ENA (in), B21 nCE (in), C1 CLKLK_OUT1n, C20 nCONFIG (in), C21 MSEL0 (in), C22 VCCSEL (in), D1 CLKLK_FB1p (in), D20 DATA0 (in), D21 nIO_PULLUP (in), D22 nCEO (out), E1 CLKLK_FB1n, CLKLK_FB1VREF (in), E20 PLLRDY (out), E21 DCLK (io), E22 MSEL1 (in), L6 C_I/O (io), L7 C_I/O (io), L8 C_I/O (io), L10 CLK1p (in), L11 CLK2p (in), M1 A_I/O (io), M2 A_I/O (io), M3 B_I/O (io), M4 B_I/O (io), M5 C_I/O (io), M8 C_I/O (io), M9 C_I/O (io), M10 CLK1n, CLK1VREF (in), M11 CLK2n, CLK2VREF (in), N1 A_I/O (io), N2 A_I/O (io), N3 B_I/O (io), N4 B_I/O (io), N8 C_I/O (io), N9 B_I/O (io), N10 C_I/O (io), N11 A_I/O, FAST_ROW5 (io), P2 C_I/O, VREF10 (io), P3 B_I/O (io), P4 B_I/O (io), P5 B_I/O (io), P6 C_I/O (io), P10 C_I/O (io), P11 C_I/O (io), R2 A_I/O (io), R3 B_I/O (io), R4 B_I/O (io), R5 B_I/O (io), R6 B_I/O (io), R7 B_I/O (io), R8 C_I/O (io), R9 C_I/O (io), R10 C_I/O (io), R11 C_I/O (io), T1 A_I/O (io), T2 A_I/O (io), T3 A_I/O (io), T4 B_I/O (io), T15 B_I/O (io), U1 A_I/O (io), U2 A_I/O (io), U3 C_I/O, LOCK2 (io), U8 B_I/O (io), U9 C_I/O, VREF12 (io), U10 C_I/O (io), U11 A_I/O, FAST_ROW7 (io), U12 C_I/O, FAST_ROW8 (io), U14 A_I/O (io), U15 B_I/O (io), U19 A_I/O (io), U20 A_I/O, VREF11 (io), U21 A_I/O (io), V1 CLKLK_FB2n, CLKLK_FB2VREF (in), V5 B_I/O (io), V8 B_I/O (io), V9 B_I/O (io), V12 C_I/O (io), V19 B_I/O (io), V20 A_I/O (io), V21 A_I/O (io), W1 CLKLK_FB2p (in), W4 A_I/O (io), W5 A_I/O (io), W6 B_I/O (io), W7 B_I/O (io), W8 C_I/O (io), W9 B_I/O (io), W10 C_I/O (io), W11 C_I/O (io), W12 C_I/O (io), W13 C_I/O (io), W14 C_I/O (io), W15 C_I/O (io), W16 B_I/O (io), W17 B_I/O (io), W18 B_I/O (io), W19 B_I/O (io), W20 A_I/O (io), W21 A_I/O (io), Y1 CLKLK_OUT2n, Y3 A_I/O (io), Y4 A_I/O (io), Y5 A_I/O (io), Y6 B_I/O (io), Y7 A_I/O (io), Y8 B_I/O (io), Y9 B_I/O (io), Y10 C_I/O (io), Y11 C_I/O (io), Y12 C_I/O (io), Y13 C_I/O (io), Y14 C_I/O (io), Y15 C_I/O (io), Y16 C_I/O (io), Y17 B_I/O (io), Y18 A_I/O (io), Y19 A_I/O (io), Y20 A_I/O (io), Y21 A_I/O (io), Y22 TDO (out)
part D pins: A1 GND (power), A2 VCCIO6 (power), A18 GND (power), A19 VCCIO5 (power), A20 VCCIO13 (power), AA2 VCCA_CKLK2 (power), AA21 VCCIO14 (power), AB1 VCCIO12 (power), AB2 GND (power), B2 VCCA_CKLK1 (power), B6 GND (power), B22 GND (power), C2 VCC_CKOUT1 (power), C6 GND (power), C7 GND (power), C8 GND (power), C9 GND (power), C11 GND (power), C12 GND (power), C13 GND (power), C14 GND (power), C15 GND (power), D2 VCCA_CKLK1 (power), D3 GND (power), D8 GND (power), D9 GND (power), D10 GND (power), D12 VCCIO4 (power), D13 GND (power), D14 GND (power), D15 GND (power), E2 VCCD_CKLK1 (power), E3 GND (power), E4 GND (power), E6 VCCD_TX (power), E7 VCCD_RX (power), E11 VCCD_HSDI1 (power), E12 VCCA_HSDI2 (power), E16 VCCD_RX (power), E17 VCCD_TX (power), F1 VCCIO8 (power), F4 GND (power), F6 VCCIO6 (power), F7 VCCIO3 (power), F8 GND (power), F10 VCCA_HSDI1 (power), F11 VCCINT (power), F12 VCCD_HSDI2 (power), F14 GND (power), F16 VCCIO1 (power), F17 VCCIO5 (power), G1 GND (power), G4 VCCIO8 (power), G5 VCCIO8 (power), G6 VCCIO8 (power), G7 VCCIO4 (power), G8 GND (power), G9 VCCINT (power), G10 VCCD_RX (power), G12 GND (power), G13 VCCD_RX (power), G14 GND (power), G15 GND (power), G16 VCCINT (power), G17 VCCINT (power), G18 VCCIO4 (power), G19 VCCINT (power), G22 VCCIO7 (power), H8 GND (power), H9 GND (power), H10 GND (power), H14 GND (power), H16 VCCIO7 (power), H20 VCCIO7 (power), H22 VCCIO7 (power), J7 VCCINT (power), J9 GND (power), J11 VCCD_RX (power), J12 GND (power), J13 GND (power), J14 GND (power), J15 GND (power), J16 VCCINT (power), K6 GND (power), K7 VCCINT (power), K16 GND (power), K17 VCCINT (power), M6 GND (power), M7 VCCINT (power), M17 GND (power), M18 VCCINT (power), N5 VCCIO10 (power), N6 VCCIO10 (power), N7 VCCIO10 (power), P1 VCCIO10 (power), P7 GND (power), P8 GND (power), P9 GND (power), P14 GND (power), P15 GND (power), P16 GND (power), P22 VCCIO9 (power), R1 GND (power), R16 VCCIO9 (power), R17 VCCIO9 (power), R18 VCCIO9 (power), R22 GND (power), T5 GND (power), T6 VCCINT (power), T7 VCCINT (power), T8 GND (power), T9 GND (power), T10 GND (power), T11 GND (power), T14 GND (power), T16 VCCINT (power), T17 GND (power), T18 VCCINT (power), U4 GND (power), U5 VCCIO12 (power), U6 VCCIO12 (power), U7 VCCIO12 (power), U13 GND (power), U16 VCCIO11 (power), U17 VCCIO11 (power), U18 VCCIO11 (power), V2 VCCD_CKLK2 (power), V3 GND (power), V4 GND (power), V6 VCCINT (power), V7 VCCINT (power), V10 GND (power), V11 GND (power), V13 GND (power), V14 GND (power), V15 GND (power), V16 VCCINT (power), V17 GND (power), V18 VCCINT (power), V22 VCCIO11 (power), W2 VCCA_CKLK2 (power), W3 GND (power), W22 GND (power), Y2 VCC_CKOUT2 (power)
part A text: BANK 1; BANK 4; HSDI; BANK 2; BANK 3
part B text: BANK 6; BANK 5; BANK 7; BANK 9; BANK 8
part C text: BANK 10; BANK 11; BANK 12

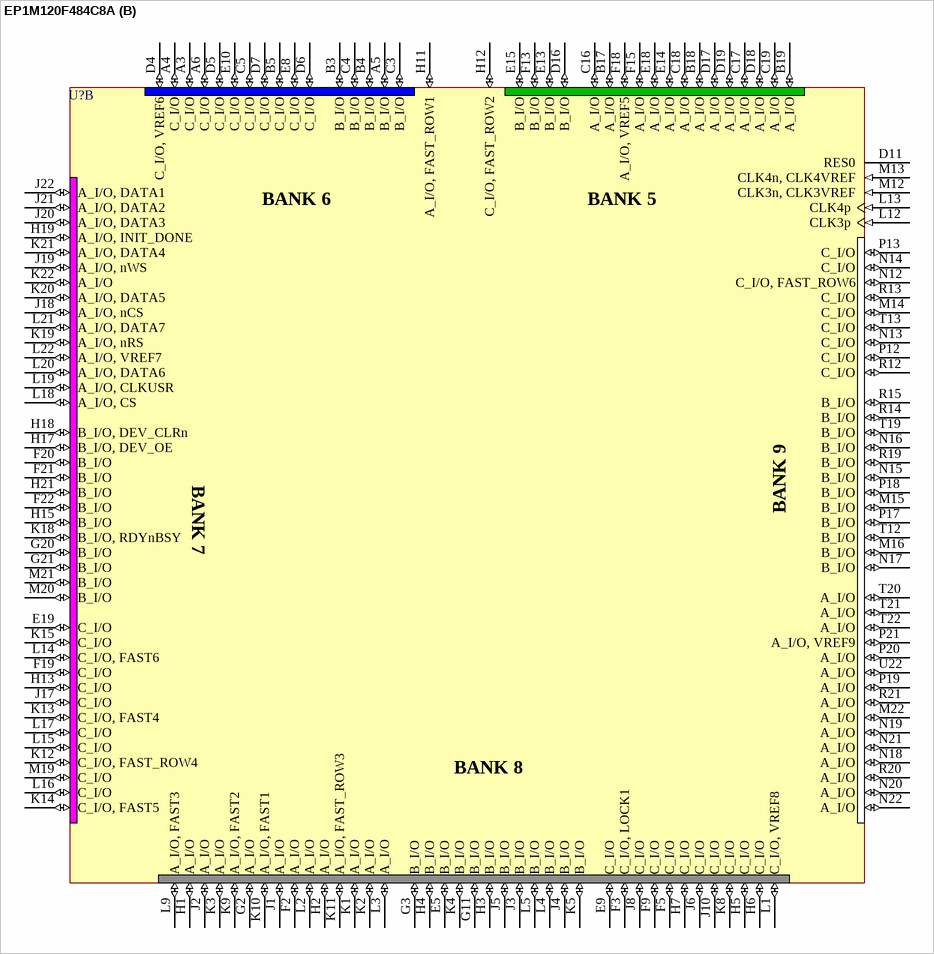
[diagram p15: symbol EP1M120F484C8A]

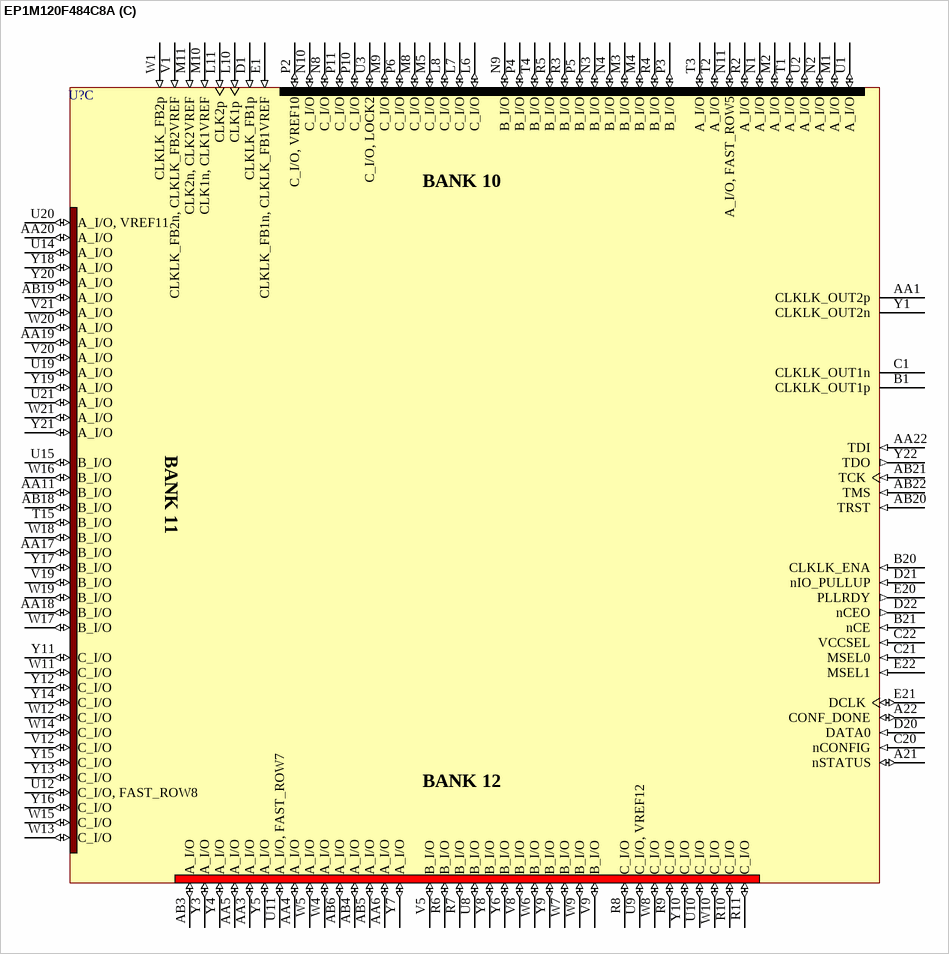
[diagram p16: symbol EP1M120F484C8A]